# Altium integrated library Freescale Semiconductor ColdFire MCU.IntLib: 117 symbols (part 5 of 7)
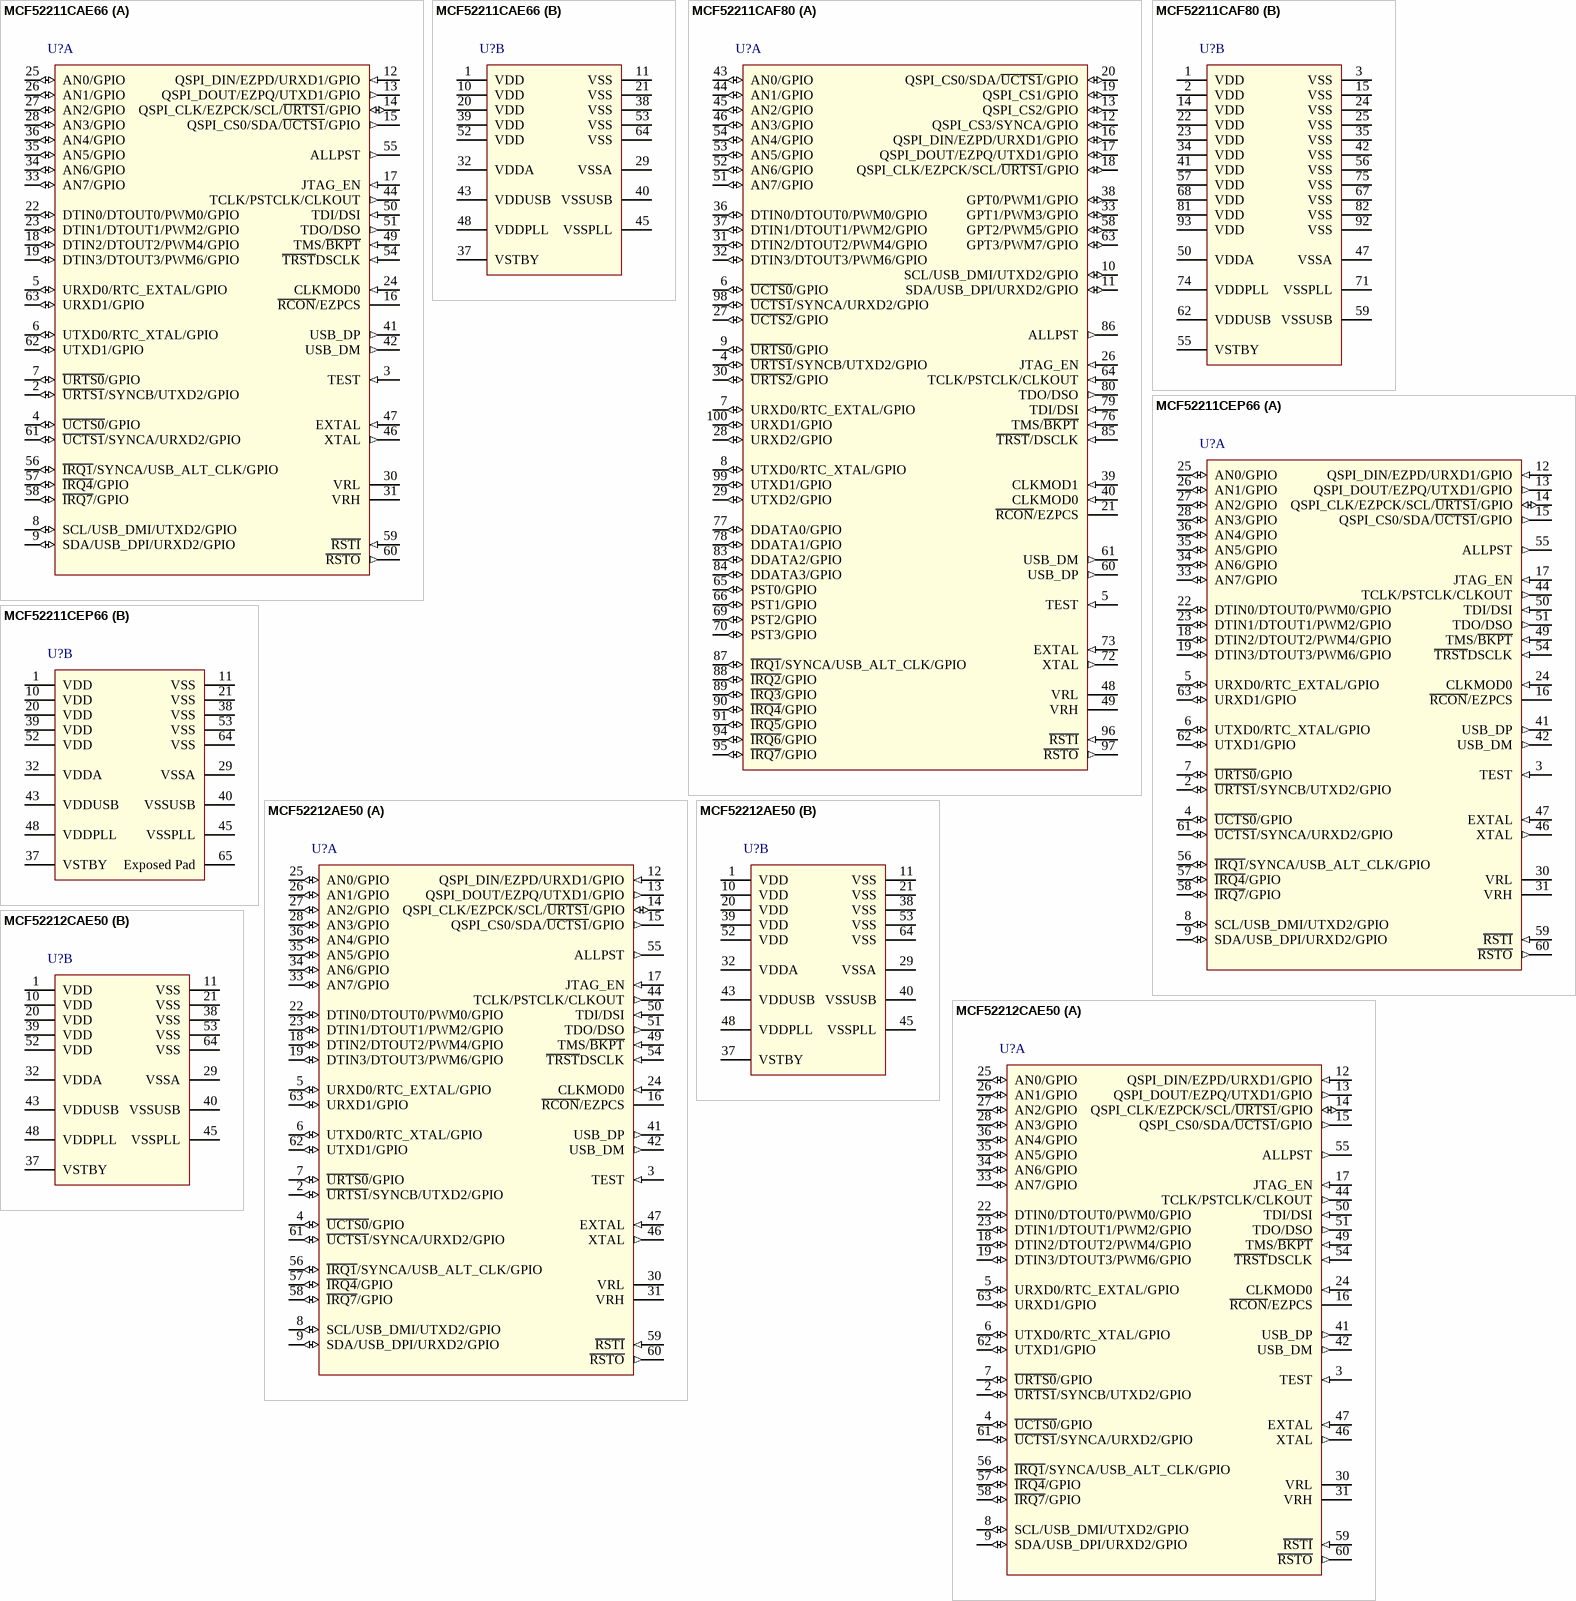
[diagram p34: symbols MCF52211CAE66 to MCF52212CAE50]

## MCF52211CAF80
designator U?
MCF52211 ColdFire V2 Microcontroller, 3 UARTs, 32-Bit, 128KB Flash, 16KB SRAM, 80MHz, -40°C to 85°C, 100-Pin LQFP; DatasheetVersion: rev2, Mar-2011; PackageVersion: rev3.1, Nov-2000; PackageReference: 983-02; PackageDescription: 100-Pin Shrink Quad Flat Pack 0.5 mm Pitch; Code_IPC: SQFP50P1600X1600-100; ComponentLink1Description: Manufacturer URL; ComponentLink1URL: http://www.freescale.com/; ComponentLink2Description: Datasheet; ComponentLink2URL: http://cache.freescale.com/files/32bit/doc/data_sheet/MCF52211.pdf?fpsp=1&WT_TYPE=Data%20Sheets&WT_VENDOR=FREESCALE&WT_FILE_FORMAT=pdf&WT_ASSET=Documentation
footprint 983-02_N (Shrink QFP, 100-Leads, Body 14x14mm, Pitch 0.5mm, IPC Medium Density)
footprint 983-02_L (Shrink QFP, 100-Leads, Body 14x14mm, Pitch 0.5mm, IPC High Density)
footprint 983-02_M (Shrink QFP, 100-Leads, Body 14x14mm, Pitch 0.5mm, IPC Low Density)
part A pins: 4 ~{URTS1}/SYNCB/UTXD2/GPIO (io), 5 TEST (in), 6 ~{UCTS0}/GPIO (io), 7 URXD0/RTC_EXTAL/GPIO (io), 8 UTXD0/RTC_XTAL/GPIO (io), 9 ~{URTS0}/GPIO (io), 10 SCL/USB_DMI/UTXD2/GPIO (io), 11 SDA/USB_DPI/URXD2/GPIO (io), 12 QSPI_CS3/SYNCA/GPIO (io), 13 QSPI_CS2/GPIO (io), 16 QSPI_DIN/EZPD/URXD1/GPIO (io), 17 QSPI_DOUT/EZPQ/UTXD1/GPIO (io), 18 QSPI_CLK/EZPCK/SCL/~{URTS1}/GPIO (io), 19 QSPI_CS1/GPIO (io), 20 QSPI_CS0/SDA/~{UCTS1}/GPIO (io), 21 ~{RCON}/EZPCS, 26 JTAG_EN (in), 27 ~{UCTS2}/GPIO (io), 28 URXD2/GPIO (io), 29 UTXD2/GPIO (io), 30 ~{URTS2}/GPIO (io), 31 DTIN2/DTOUT2/PWM4/GPIO (io), 32 DTIN3/DTOUT3/PWM6/GPIO (io), 33 GPT1/PWM3/GPIO (io), 36 DTIN0/DTOUT0/PWM0/GPIO (io), 37 DTIN1/DTOUT1/PWM2/GPIO (io), 38 GPT0/PWM1/GPIO (io), 39 CLKMOD1 (in), 40 CLKMOD0 (in), 43 AN0/GPIO (io), 44 AN1/GPIO (io), 45 AN2/GPIO (io), 46 AN3/GPIO (io), 48 VRL, 49 VRH, 51 AN7/GPIO (io), 52 AN6/GPIO (io), 53 AN5/GPIO (io), 54 AN4/GPIO (io), 58 GPT2/PWM5/GPIO (io), 60 USB_DP (out), 61 USB_DM (out), 63 GPT3/PWM7/GPIO (io), 64 TCLK/PSTCLK/CLKOUT (in), 65 PST0/GPIO (io), 66 PST1/GPIO (io), 69 PST2/GPIO (io), 70 PST3/GPIO (io), 72 XTAL (out), 73 EXTAL (in), 76 TMS/~{BKPT} (in), 77 DDATA0/GPIO (io), 78 DDATA1/GPIO (io), 79 TDI/DSI (in), 80 TDO/DSO (out), 83 DDATA2/GPIO (io), 84 DDATA3/GPIO (io), 85 ~{TRST}/DSCLK (in), 86 ALLPST (out), 87 ~{IRQ1}/SYNCA/USB_ALT_CLK/GPIO (io), 88 ~{IRQ2}/GPIO (io), 89 ~{IRQ3}/GPIO (io), 90 ~{IRQ4}/GPIO (io), 91 ~{IRQ5}/GPIO (io), 94 ~{IRQ6}/GPIO (io), 95 ~{IRQ7}/GPIO (io), 96 ~{RSTI} (in), 97 ~{RSTO} (out), 98 ~{UCTS1}/SYNCA/URXD2/GPIO (io), 99 UTXD1/GPIO (io), 100 URXD1/GPIO (io)
part B pins: 1 VDD (power), 2 VDD (power), 3 VSS (power), 14 VDD (power), 15 VSS (power), 22 VDD (power), 23 VDD (power), 24 VSS (power), 25 VSS (power), 34 VDD (power), 35 VSS (power), 41 VDD (power), 42 VSS (power), 47 VSSA (power), 50 VDDA (power), 55 VSTBY (power), 56 VSS (power), 57 VDD (power), 59 VSSUSB (power), 62 VDDUSB (power), 67 VSS (power), 68 VDD (power), 71 VSSPLL (power), 74 VDDPLL (power), 75 VSS (power), 81 VDD (power), 82 VSS (power), 92 VSS (power), 93 VDD (power)

## MCF52211CEP66
designator U?
MCF52211 ColdFire V2 Microcontroller, 2 UARTs, 32-Bit, 128KB Flash, 16KB SRAM, 66MHz, -40°C to 85°C, 64-Pin QFN; DatasheetVersion: rev2, Mar-2011; PackageVersion: revO; PackageReference: 1740-01; PackageDescription: 64-Pin Quad Flat No-Lead, 9 x 9 mm Body, 0.5 mm Pitch; Code_JEDEC: MO-220VMMD-3; ComponentLink1Description: Manufacturer URL; ComponentLink1URL: http://www.freescale.com/; ComponentLink2Description: Datasheet; ComponentLink2URL: http://cache.freescale.com/files/32bit/doc/data_sheet/MCF52211.pdf?fpsp=1&WT_TYPE=Data%20Sheets&WT_VENDOR=FREESCALE&WT_FILE_FORMAT=pdf&WT_ASSET=Documentation
footprint 1740-01_N (QFN, 64-Leads, Body 9x9mm, Pitch 0.5mm, Thermal Pad 6.1x6.1mm, IPC Medium Density)
footprint 1740-01_L (QFN, 64-Leads, Body 9x9mm, Pitch 0.5mm, Thermal Pad 6.1x6.1mm, IPC High Density)
footprint 1740-01_M (QFN, 64-Leads, Body 9x9mm, Pitch 0.5mm, Thermal Pad 6.1x6.1mm, IPC Low Density)
part A pins: 2 ~{URTS1}/SYNCB/UTXD2/GPIO (io), 3 TEST (in), 4 ~{UCTS0}/GPIO (io), 5 URXD0/RTC_EXTAL/GPIO (io), 6 UTXD0/RTC_XTAL/GPIO (io), 7 ~{URTS0}/GPIO (io), 8 SCL/USB_DMI/UTXD2/GPIO (io), 9 SDA/USB_DPI/URXD2/GPIO (io), 12 QSPI_DIN/EZPD/URXD1/GPIO (in), 13 QSPI_DOUT/EZPQ/UTXD1/GPIO (out), 14 QSPI_CLK/EZPCK/SCL/~{URTS1}/GPIO (io), 15 QSPI_CS0/SDA/~{UCTS1}/GPIO (out), 16 ~{RCON}/EZPCS, 17 JTAG_EN (in), 18 DTIN2/DTOUT2/PWM4/GPIO (io), 19 DTIN3/DTOUT3/PWM6/GPIO (io), 22 DTIN0/DTOUT0/PWM0/GPIO (io), 23 DTIN1/DTOUT1/PWM2/GPIO (io), 24 CLKMOD0 (in), 25 AN0/GPIO (io), 26 AN1/GPIO (io), 27 AN2/GPIO (io), 28 AN3/GPIO (io), 30 VRL (power), 31 VRH (power), 33 AN7/GPIO (io), 34 AN6/GPIO (io), 35 AN5/GPIO (io), 36 AN4/GPIO (io), 41 USB_DP (out), 42 USB_DM (out), 44 TCLK/PSTCLK/CLKOUT (out), 46 XTAL (out), 47 EXTAL (in), 49 TMS/~{BKPT} (in), 50 TDI/DSI (in), 51 TDO/DSO (out), 54 ~{TRST}DSCLK (in), 55 ALLPST (out), 56 ~{IRQ1}/SYNCA/USB_ALT_CLK/GPIO (io), 57 ~{IRQ4}/GPIO (io), 58 ~{IRQ7}/GPIO (io), 59 ~{RSTI} (in), 60 ~{RSTO} (out), 61 ~{UCTS1}/SYNCA/URXD2/GPIO (io), 62 UTXD1/GPIO (io), 63 URXD1/GPIO (io)
part B pins: 1 VDD (power), 10 VDD (power), 11 VSS (power), 20 VDD (power), 21 VSS (power), 29 VSSA (power), 32 VDDA (power), 37 VSTBY (power), 38 VSS (power), 39 VDD (power), 40 VSSUSB (power), 43 VDDUSB (power), 45 VSSPLL (power), 48 VDDPLL (power), 52 VDD (power), 53 VSS (power), 64 VSS (power), 65 Exposed Pad (power)

## MCF52212AE50
designator U?
MCF52212 ColdFire V2 Microcontroller, 2 UARTs, 32-Bit, 64KB Flash, 8KB SRAM, 50MHz, 0°C to 70°C, 64-Pin LQFP; DatasheetVersion: rev2, Mar-2011; PackageVersion: rev6, Mar-2011; PackageReference: 840F-02; PackageDescription: 64-Pin Thin Quad Flat Pack, 10 x 10 mm Body, 0.5 mm Pitch; ComponentLink1Description: Manufacturer URL; ComponentLink1URL: http://www.freescale.com/; ComponentLink2Description: Datasheet; ComponentLink2URL: http://cache.freescale.com/files/32bit/doc/data_sheet/MCF52211.pdf?fpsp=1&WT_TYPE=Data%20Sheets&WT_VENDOR=FREESCALE&WT_FILE_FORMAT=pdf&WT_ASSET=Documentation
footprint 840F-02_N (Thin QFP, 64-Leads, Body 10x10mm, Pitch 0.5mm, IPC Medium Density)
footprint 840F-02_L (Thin QFP, 64-Leads, Body 10x10mm, Pitch 0.5mm, IPC High Density)
footprint 840F-02_M (Thin QFP, 64-Leads, Body 10x10mm, Pitch 0.5mm, IPC Low Density)
part A pins: 2 ~{URTS1}/SYNCB/UTXD2/GPIO (io), 3 TEST (in), 4 ~{UCTS0}/GPIO (io), 5 URXD0/RTC_EXTAL/GPIO (io), 6 UTXD0/RTC_XTAL/GPIO (io), 7 ~{URTS0}/GPIO (io), 8 SCL/USB_DMI/UTXD2/GPIO (io), 9 SDA/USB_DPI/URXD2/GPIO (io), 12 QSPI_DIN/EZPD/URXD1/GPIO (in), 13 QSPI_DOUT/EZPQ/UTXD1/GPIO (out), 14 QSPI_CLK/EZPCK/SCL/~{URTS1}/GPIO (io), 15 QSPI_CS0/SDA/~{UCTS1}/GPIO (out), 16 ~{RCON}/EZPCS, 17 JTAG_EN (in), 18 DTIN2/DTOUT2/PWM4/GPIO (io), 19 DTIN3/DTOUT3/PWM6/GPIO (io), 22 DTIN0/DTOUT0/PWM0/GPIO (io), 23 DTIN1/DTOUT1/PWM2/GPIO (io), 24 CLKMOD0 (in), 25 AN0/GPIO (io), 26 AN1/GPIO (io), 27 AN2/GPIO (io), 28 AN3/GPIO (io), 30 VRL (power), 31 VRH (power), 33 AN7/GPIO (io), 34 AN6/GPIO (io), 35 AN5/GPIO (io), 36 AN4/GPIO (io), 41 USB_DP (out), 42 USB_DM (out), 44 TCLK/PSTCLK/CLKOUT (out), 46 XTAL (out), 47 EXTAL (in), 49 TMS/~{BKPT} (in), 50 TDI/DSI (in), 51 TDO/DSO (out), 54 ~{TRST}DSCLK (in), 55 ALLPST (out), 56 ~{IRQ1}/SYNCA/USB_ALT_CLK/GPIO (io), 57 ~{IRQ4}/GPIO (io), 58 ~{IRQ7}/GPIO (io), 59 ~{RSTI} (in), 60 ~{RSTO} (out), 61 ~{UCTS1}/SYNCA/URXD2/GPIO (io), 62 UTXD1/GPIO (io), 63 URXD1/GPIO (io)
part B pins: 1 VDD (power), 10 VDD (power), 11 VSS (power), 20 VDD (power), 21 VSS (power), 29 VSSA (power), 32 VDDA (power), 37 VSTBY (power), 38 VSS (power), 39 VDD (power), 40 VSSUSB (power), 43 VDDUSB (power), 45 VSSPLL (power), 48 VDDPLL (power), 52 VDD (power), 53 VSS (power), 64 VSS (power)

## MCF52212CAE50
designator U?
MCF52212 ColdFire V2 Microcontroller, 2 UARTs, 32-Bit, 64KB Flash, 8KB SRAM, 50MHz, -40°C to 85°C, 64-Pin LQFP; DatasheetVersion: rev2, Mar-2011; PackageVersion: rev6, Mar-2011; PackageReference: 840F-02; PackageDescription: 64-Pin Thin Quad Flat Pack, 10 x 10 mm Body, 0.5 mm Pitch; ComponentLink1Description: Manufacturer URL; ComponentLink1URL: http://www.freescale.com/; ComponentLink2Description: Datasheet; ComponentLink2URL: http://cache.freescale.com/files/32bit/doc/data_sheet/MCF52211.pdf?fpsp=1&WT_TYPE=Data%20Sheets&WT_VENDOR=FREESCALE&WT_FILE_FORMAT=pdf&WT_ASSET=Documentation
footprint 840F-02_N (Thin QFP, 64-Leads, Body 10x10mm, Pitch 0.5mm, IPC Medium Density)
footprint 840F-02_L (Thin QFP, 64-Leads, Body 10x10mm, Pitch 0.5mm, IPC High Density)
footprint 840F-02_M (Thin QFP, 64-Leads, Body 10x10mm, Pitch 0.5mm, IPC Low Density)
part A pins: 2 ~{URTS1}/SYNCB/UTXD2/GPIO (io), 3 TEST (in), 4 ~{UCTS0}/GPIO (io), 5 URXD0/RTC_EXTAL/GPIO (io), 6 UTXD0/RTC_XTAL/GPIO (io), 7 ~{URTS0}/GPIO (io), 8 SCL/USB_DMI/UTXD2/GPIO (io), 9 SDA/USB_DPI/URXD2/GPIO (io), 12 QSPI_DIN/EZPD/URXD1/GPIO (in), 13 QSPI_DOUT/EZPQ/UTXD1/GPIO (out), 14 QSPI_CLK/EZPCK/SCL/~{URTS1}/GPIO (io), 15 QSPI_CS0/SDA/~{UCTS1}/GPIO (out), 16 ~{RCON}/EZPCS, 17 JTAG_EN (in), 18 DTIN2/DTOUT2/PWM4/GPIO (io), 19 DTIN3/DTOUT3/PWM6/GPIO (io), 22 DTIN0/DTOUT0/PWM0/GPIO (io), 23 DTIN1/DTOUT1/PWM2/GPIO (io), 24 CLKMOD0 (in), 25 AN0/GPIO (io), 26 AN1/GPIO (io), 27 AN2/GPIO (io), 28 AN3/GPIO (io), 30 VRL (power), 31 VRH (power), 33 AN7/GPIO (io), 34 AN6/GPIO (io), 35 AN5/GPIO (io), 36 AN4/GPIO (io), 41 USB_DP (out), 42 USB_DM (out), 44 TCLK/PSTCLK/CLKOUT (out), 46 XTAL (out), 47 EXTAL (in), 49 TMS/~{BKPT} (in), 50 TDI/DSI (in), 51 TDO/DSO (out), 54 ~{TRST}DSCLK (in), 55 ALLPST (out), 56 ~{IRQ1}/SYNCA/USB_ALT_CLK/GPIO (io), 57 ~{IRQ4}/GPIO (io), 58 ~{IRQ7}/GPIO (io), 59 ~{RSTI} (in), 60 ~{RSTO} (out), 61 ~{UCTS1}/SYNCA/URXD2/GPIO (io), 62 UTXD1/GPIO (io), 63 URXD1/GPIO (io)
part B pins: 1 VDD (power), 10 VDD (power), 11 VSS (power), 20 VDD (power), 21 VSS (power), 29 VSSA (power), 32 VDDA (power), 37 VSTBY (power), 38 VSS (power), 39 VDD (power), 40 VSSUSB (power), 43 VDDUSB (power), 45 VSSPLL (power), 48 VDDPLL (power), 52 VDD (power), 53 VSS (power), 64 VSS (power)

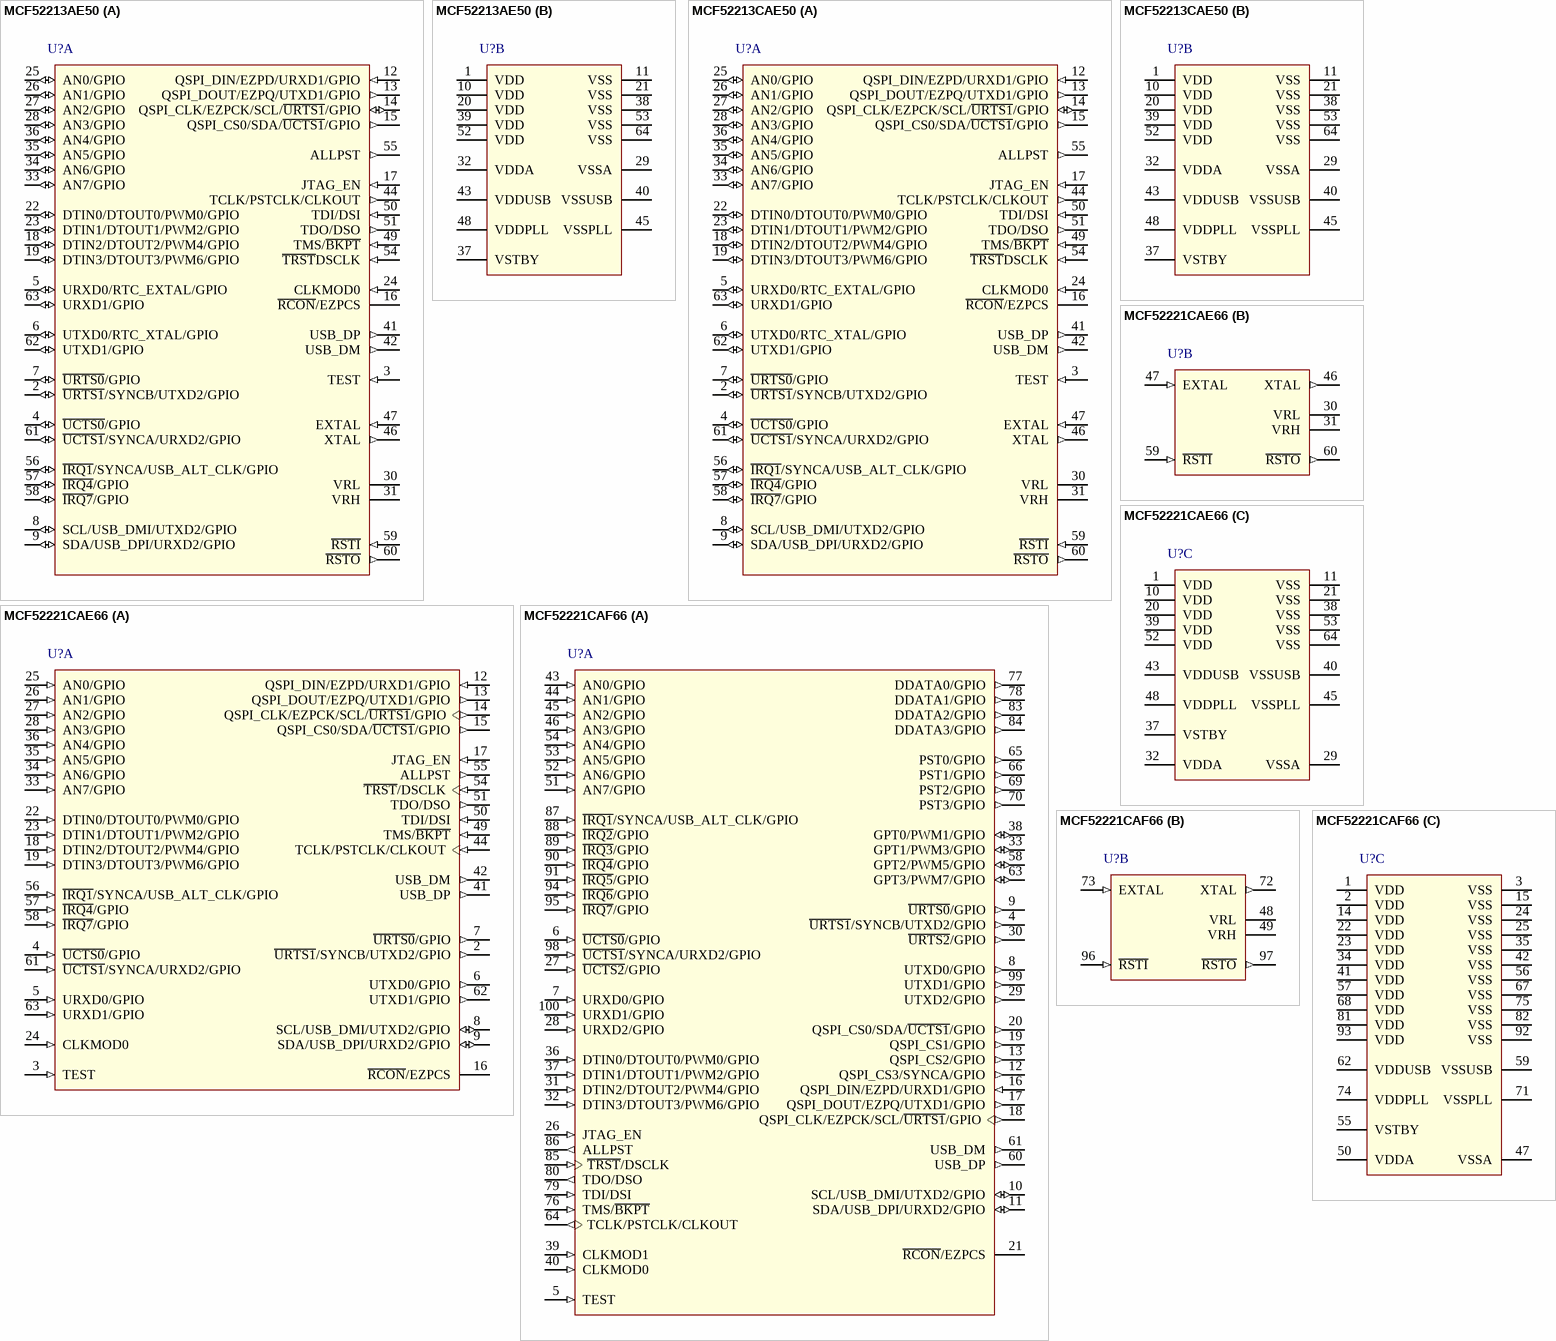
[diagram p19: symbols MCF52213AE50 to MCF52221CAF66]

## MCF52213AE50
designator U?
MCF52213 ColdFire V2 Microcontroller, 2 UARTs, 32-Bit, 128KB Flash, 8KB SRAM, 50MHz, 0°C to 70°C, 64-Pin LQFP; DatasheetVersion: rev2, Mar-2011; PackageVersion: rev6, Mar-2011; PackageReference: 840F-02; PackageDescription: 64-Pin Thin Quad Flat Pack, 10 x 10 mm Body, 0.5 mm Pitch; ComponentLink1Description: Manufacturer URL; ComponentLink1URL: http://www.freescale.com/; ComponentLink2Description: Datasheet; ComponentLink2URL: http://cache.freescale.com/files/32bit/doc/data_sheet/MCF52211.pdf?fpsp=1&WT_TYPE=Data%20Sheets&WT_VENDOR=FREESCALE&WT_FILE_FORMAT=pdf&WT_ASSET=Documentation
footprint 840F-02_N (Thin QFP, 64-Leads, Body 10x10mm, Pitch 0.5mm, IPC Medium Density)
footprint 840F-02_L (Thin QFP, 64-Leads, Body 10x10mm, Pitch 0.5mm, IPC High Density)
footprint 840F-02_M (Thin QFP, 64-Leads, Body 10x10mm, Pitch 0.5mm, IPC Low Density)
part A pins: 2 ~{URTS1}/SYNCB/UTXD2/GPIO (io), 3 TEST (in), 4 ~{UCTS0}/GPIO (io), 5 URXD0/RTC_EXTAL/GPIO (io), 6 UTXD0/RTC_XTAL/GPIO (io), 7 ~{URTS0}/GPIO (io), 8 SCL/USB_DMI/UTXD2/GPIO (io), 9 SDA/USB_DPI/URXD2/GPIO (io), 12 QSPI_DIN/EZPD/URXD1/GPIO (in), 13 QSPI_DOUT/EZPQ/UTXD1/GPIO (out), 14 QSPI_CLK/EZPCK/SCL/~{URTS1}/GPIO (io), 15 QSPI_CS0/SDA/~{UCTS1}/GPIO (out), 16 ~{RCON}/EZPCS, 17 JTAG_EN (in), 18 DTIN2/DTOUT2/PWM4/GPIO (io), 19 DTIN3/DTOUT3/PWM6/GPIO (io), 22 DTIN0/DTOUT0/PWM0/GPIO (io), 23 DTIN1/DTOUT1/PWM2/GPIO (io), 24 CLKMOD0 (in), 25 AN0/GPIO (io), 26 AN1/GPIO (io), 27 AN2/GPIO (io), 28 AN3/GPIO (io), 30 VRL (power), 31 VRH (power), 33 AN7/GPIO (io), 34 AN6/GPIO (io), 35 AN5/GPIO (io), 36 AN4/GPIO (io), 41 USB_DP (out), 42 USB_DM (out), 44 TCLK/PSTCLK/CLKOUT (out), 46 XTAL (out), 47 EXTAL (in), 49 TMS/~{BKPT} (in), 50 TDI/DSI (in), 51 TDO/DSO (out), 54 ~{TRST}DSCLK (in), 55 ALLPST (out), 56 ~{IRQ1}/SYNCA/USB_ALT_CLK/GPIO (io), 57 ~{IRQ4}/GPIO (io), 58 ~{IRQ7}/GPIO (io), 59 ~{RSTI} (in), 60 ~{RSTO} (out), 61 ~{UCTS1}/SYNCA/URXD2/GPIO (io), 62 UTXD1/GPIO (io), 63 URXD1/GPIO (io)
part B pins: 1 VDD (power), 10 VDD (power), 11 VSS (power), 20 VDD (power), 21 VSS (power), 29 VSSA (power), 32 VDDA (power), 37 VSTBY (power), 38 VSS (power), 39 VDD (power), 40 VSSUSB (power), 43 VDDUSB (power), 45 VSSPLL (power), 48 VDDPLL (power), 52 VDD (power), 53 VSS (power), 64 VSS (power)

## MCF52213CAE50
designator U?
MCF52213 ColdFire V2 Microcontroller, 2 UARTs, 32-Bit, 128KB Flash, 8KB SRAM, 50MHz, -40°C to 85°C, 64-Pin LQFP; DatasheetVersion: rev2, Mar-2011; PackageVersion: rev6, Mar-2011; PackageReference: 840F-02; PackageDescription: 64-Pin Thin Quad Flat Pack, 10 x 10 mm Body, 0.5 mm Pitch; ComponentLink1Description: Manufacturer URL; ComponentLink1URL: http://www.freescale.com/; ComponentLink2Description: Datasheet; ComponentLink2URL: http://cache.freescale.com/files/32bit/doc/data_sheet/MCF52211.pdf?fpsp=1&WT_TYPE=Data%20Sheets&WT_VENDOR=FREESCALE&WT_FILE_FORMAT=pdf&WT_ASSET=Documentation
footprint 840F-02_N (Thin QFP, 64-Leads, Body 10x10mm, Pitch 0.5mm, IPC Medium Density)
footprint 840F-02_L (Thin QFP, 64-Leads, Body 10x10mm, Pitch 0.5mm, IPC High Density)
footprint 840F-02_M (Thin QFP, 64-Leads, Body 10x10mm, Pitch 0.5mm, IPC Low Density)
part A pins: 2 ~{URTS1}/SYNCB/UTXD2/GPIO (io), 3 TEST (in), 4 ~{UCTS0}/GPIO (io), 5 URXD0/RTC_EXTAL/GPIO (io), 6 UTXD0/RTC_XTAL/GPIO (io), 7 ~{URTS0}/GPIO (io), 8 SCL/USB_DMI/UTXD2/GPIO (io), 9 SDA/USB_DPI/URXD2/GPIO (io), 12 QSPI_DIN/EZPD/URXD1/GPIO (in), 13 QSPI_DOUT/EZPQ/UTXD1/GPIO (out), 14 QSPI_CLK/EZPCK/SCL/~{URTS1}/GPIO (io), 15 QSPI_CS0/SDA/~{UCTS1}/GPIO (out), 16 ~{RCON}/EZPCS, 17 JTAG_EN (in), 18 DTIN2/DTOUT2/PWM4/GPIO (io), 19 DTIN3/DTOUT3/PWM6/GPIO (io), 22 DTIN0/DTOUT0/PWM0/GPIO (io), 23 DTIN1/DTOUT1/PWM2/GPIO (io), 24 CLKMOD0 (in), 25 AN0/GPIO (io), 26 AN1/GPIO (io), 27 AN2/GPIO (io), 28 AN3/GPIO (io), 30 VRL (power), 31 VRH (power), 33 AN7/GPIO (io), 34 AN6/GPIO (io), 35 AN5/GPIO (io), 36 AN4/GPIO (io), 41 USB_DP (out), 42 USB_DM (out), 44 TCLK/PSTCLK/CLKOUT (out), 46 XTAL (out), 47 EXTAL (in), 49 TMS/~{BKPT} (in), 50 TDI/DSI (in), 51 TDO/DSO (out), 54 ~{TRST}DSCLK (in), 55 ALLPST (out), 56 ~{IRQ1}/SYNCA/USB_ALT_CLK/GPIO (io), 57 ~{IRQ4}/GPIO (io), 58 ~{IRQ7}/GPIO (io), 59 ~{RSTI} (in), 60 ~{RSTO} (out), 61 ~{UCTS1}/SYNCA/URXD2/GPIO (io), 62 UTXD1/GPIO (io), 63 URXD1/GPIO (io)
part B pins: 1 VDD (power), 10 VDD (power), 11 VSS (power), 20 VDD (power), 21 VSS (power), 29 VSSA (power), 32 VDDA (power), 37 VSTBY (power), 38 VSS (power), 39 VDD (power), 40 VSSUSB (power), 43 VDDUSB (power), 45 VSSPLL (power), 48 VDDPLL (power), 52 VDD (power), 53 VSS (power), 64 VSS (power)

## MCF52221CAE66
designator U?
MCF52221 ColdFire V2 Microcontroller, 32-Bit, 128KB Flash, 16KB SRAM, 66MHz, -40°C to 85°C, 64-Pin LQFP; DatasheetVersion: rev3, Mar-2011; PackageVersion: rev6, Mar-2011; PackageReference: 840F-02; PackageDescription: 64-Pin Thin Quad Flat Pack, 10 x 10 mm Body, 0.5 mm Pitch; ComponentLink1Description: Manufacturer URL; ComponentLink1URL: http://www.freescale.com/; ComponentLink2Description: Datasheet; ComponentLink2URL: http://cache.freescale.com/files/32bit/doc/data_sheet/MCF52223DS.pdf?fpsp=1&WT_TYPE=Data%20Sheets&WT_VENDOR=FREESCALE&WT_FILE_FORMAT=pdf&WT_ASSET=Documentation
footprint 840F-02_N (Thin QFP, 64-Leads, Body 10x10mm, Pitch 0.5mm, IPC Medium Density)
footprint 840F-02_L (Thin QFP, 64-Leads, Body 10x10mm, Pitch 0.5mm, IPC High Density)
footprint 840F-02_M (Thin QFP, 64-Leads, Body 10x10mm, Pitch 0.5mm, IPC Low Density)
part A pins: 2 ~{URTS1}/SYNCB/UTXD2/GPIO (out), 3 TEST (in), 4 ~{UCTS0}/GPIO (in), 5 URXD0/GPIO (in), 6 UTXD0/GPIO (out), 7 ~{URTS0}/GPIO (out), 8 SCL/USB_DMI/UTXD2/GPIO (io), 9 SDA/USB_DPI/URXD2/GPIO (io), 12 QSPI_DIN/EZPD/URXD1/GPIO (in), 13 QSPI_DOUT/EZPQ/UTXD1/GPIO (out), 14 QSPI_CLK/EZPCK/SCL/~{URTS1}/GPIO (out), 15 QSPI_CS0/SDA/~{UCTS1}/GPIO (out), 16 ~{RCON}/EZPCS, 17 JTAG_EN (in), 18 DTIN2/DTOUT2/PWM4/GPIO (in), 19 DTIN3/DTOUT3/PWM6/GPIO (in), 22 DTIN0/DTOUT0/PWM0/GPIO (in), 23 DTIN1/DTOUT1/PWM2/GPIO (in), 24 CLKMOD0 (in), 25 AN0/GPIO (in), 26 AN1/GPIO (in), 27 AN2/GPIO (in), 28 AN3/GPIO (in), 33 AN7/GPIO (in), 34 AN6/GPIO (in), 35 AN5/GPIO (in), 36 AN4/GPIO (in), 41 USB_DP (out), 42 USB_DM (out), 44 TCLK/PSTCLK/CLKOUT (in), 49 TMS/~{BKPT} (in), 50 TDI/DSI (in), 51 TDO/DSO (out), 54 ~{TRST}/DSCLK (in), 55 ALLPST (out), 56 ~{IRQ1}/SYNCA/USB_ALT_CLK/GPIO (in), 57 ~{IRQ4}/GPIO (in), 58 ~{IRQ7}/GPIO (in), 61 ~{UCTS1}/SYNCA/URXD2/GPIO (in), 62 UTXD1/GPIO (out), 63 URXD1/GPIO (in)
part B pins: 30 VRL (power), 31 VRH (power), 46 XTAL (out), 47 EXTAL (in), 59 ~{RSTI} (in), 60 ~{RSTO} (out)
part C pins: 1 VDD (power), 10 VDD (power), 11 VSS (power), 20 VDD (power), 21 VSS (power), 29 VSSA (power), 32 VDDA (power), 37 VSTBY (power), 38 VSS (power), 39 VDD (power), 40 VSSUSB (power), 43 VDDUSB (power), 45 VSSPLL (power), 48 VDDPLL (power), 52 VDD (power), 53 VSS (power), 64 VSS (power)

## MCF52221CAF66
designator U?
MCF52221 ColdFire V2 Microcontroller, 32-Bit, 128KB Flash, 16KB SRAM, 66MHz, -40°C to 85°C, 100-Pin LQFP; DatasheetVersion: rev3, Mar-2011; PackageVersion: rev3.1, Nov-2000; PackageReference: 983-02; PackageDescription: 100-Pin Shrink Quad Flat Pack 0.5 mm Pitch; Code_IPC: SQFP50P1600X1600-100; ComponentLink1Description: Manufacturer URL; ComponentLink1URL: http://www.freescale.com/; ComponentLink2Description: Datasheet; ComponentLink2URL: http://cache.freescale.com/files/32bit/doc/data_sheet/MCF52223DS.pdf?fpsp=1&WT_TYPE=Data%20Sheets&WT_VENDOR=FREESCALE&WT_FILE_FORMAT=pdf&WT_ASSET=Documentation
footprint 983-02_N (Shrink QFP, 100-Leads, Body 14x14mm, Pitch 0.5mm, IPC Medium Density)
footprint 983-02_L (Shrink QFP, 100-Leads, Body 14x14mm, Pitch 0.5mm, IPC High Density)
footprint 983-02_M (Shrink QFP, 100-Leads, Body 14x14mm, Pitch 0.5mm, IPC Low Density)
part A pins: 4 ~{URTS1}/SYNCB/UTXD2/GPIO (out), 5 TEST (in), 6 ~{UCTS0}/GPIO (in), 7 URXD0/GPIO (in), 8 UTXD0/GPIO (out), 9 ~{URTS0}/GPIO (out), 10 SCL/USB_DMI/UTXD2/GPIO (io), 11 SDA/USB_DPI/URXD2/GPIO (io), 12 QSPI_CS3/SYNCA/GPIO (out), 13 QSPI_CS2/GPIO (out), 16 QSPI_DIN/EZPD/URXD1/GPIO (in), 17 QSPI_DOUT/EZPQ/UTXD1/GPIO (out), 18 QSPI_CLK/EZPCK/SCL/~{URTS1}/GPIO (out), 19 QSPI_CS1/GPIO (out), 20 QSPI_CS0/SDA/~{UCTS1}/GPIO (out), 21 ~{RCON}/EZPCS, 26 JTAG_EN (in), 27 ~{UCTS2}/GPIO (in), 28 URXD2/GPIO (in), 29 UTXD2/GPIO (out), 30 ~{URTS2}/GPIO (out), 31 DTIN2/DTOUT2/PWM4/GPIO (in), 32 DTIN3/DTOUT3/PWM6/GPIO (in), 33 GPT1/PWM3/GPIO (io), 36 DTIN0/DTOUT0/PWM0/GPIO (in), 37 DTIN1/DTOUT1/PWM2/GPIO (in), 38 GPT0/PWM1/GPIO (io), 39 CLKMOD1 (in), 40 CLKMOD0 (in), 43 AN0/GPIO (in), 44 AN1/GPIO (in), 45 AN2/GPIO (in), 46 AN3/GPIO (in), 51 AN7/GPIO (in), 52 AN6/GPIO (in), 53 AN5/GPIO (in), 54 AN4/GPIO (in), 58 GPT2/PWM5/GPIO (io), 60 USB_DP (out), 61 USB_DM (out), 63 GPT3/PWM7/GPIO (io), 64 TCLK/PSTCLK/CLKOUT (out), 65 PST0/GPIO (out), 66 PST1/GPIO (out), 69 PST2/GPIO (out), 70 PST3/GPIO (out), 76 TMS/~{BKPT} (in), 77 DDATA0/GPIO (out), 78 DDATA1/GPIO (out), 79 TDI/DSI (in), 80 TDO/DSO (out), 83 DDATA2/GPIO (out), 84 DDATA3/GPIO (out), 85 ~{TRST}/DSCLK (in), 86 ALLPST (out), 87 ~{IRQ1}/SYNCA/USB_ALT_CLK/GPIO (in), 88 ~{IRQ2}/GPIO (in), 89 ~{IRQ3}/GPIO (in), 90 ~{IRQ4}/GPIO (in), 91 ~{IRQ5}/GPIO (in), 94 ~{IRQ6}/GPIO (in), 95 ~{IRQ7}/GPIO (in), 98 ~{UCTS1}/SYNCA/URXD2/GPIO (in), 99 UTXD1/GPIO (out), 100 URXD1/GPIO (in)
part B pins: 48 VRL (power), 49 VRH (power), 72 XTAL (out), 73 EXTAL (in), 96 ~{RSTI} (in), 97 ~{RSTO} (out)
part C pins: 1 VDD (power), 2 VDD (power), 3 VSS (power), 14 VDD (power), 15 VSS (power), 22 VDD (power), 23 VDD (power), 24 VSS (power), 25 VSS (power), 34 VDD (power), 35 VSS (power), 41 VDD (power), 42 VSS (power), 47 VSSA (power), 50 VDDA (power), 55 VSTBY (power), 56 VSS (power), 57 VDD (power), 59 VSSUSB (power), 62 VDDUSB (power), 67 VSS (power), 68 VDD (power), 71 VSSPLL (power), 74 VDDPLL (power), 75 VSS (power), 81 VDD (power), 82 VSS (power), 92 VSS (power), 93 VDD (power)

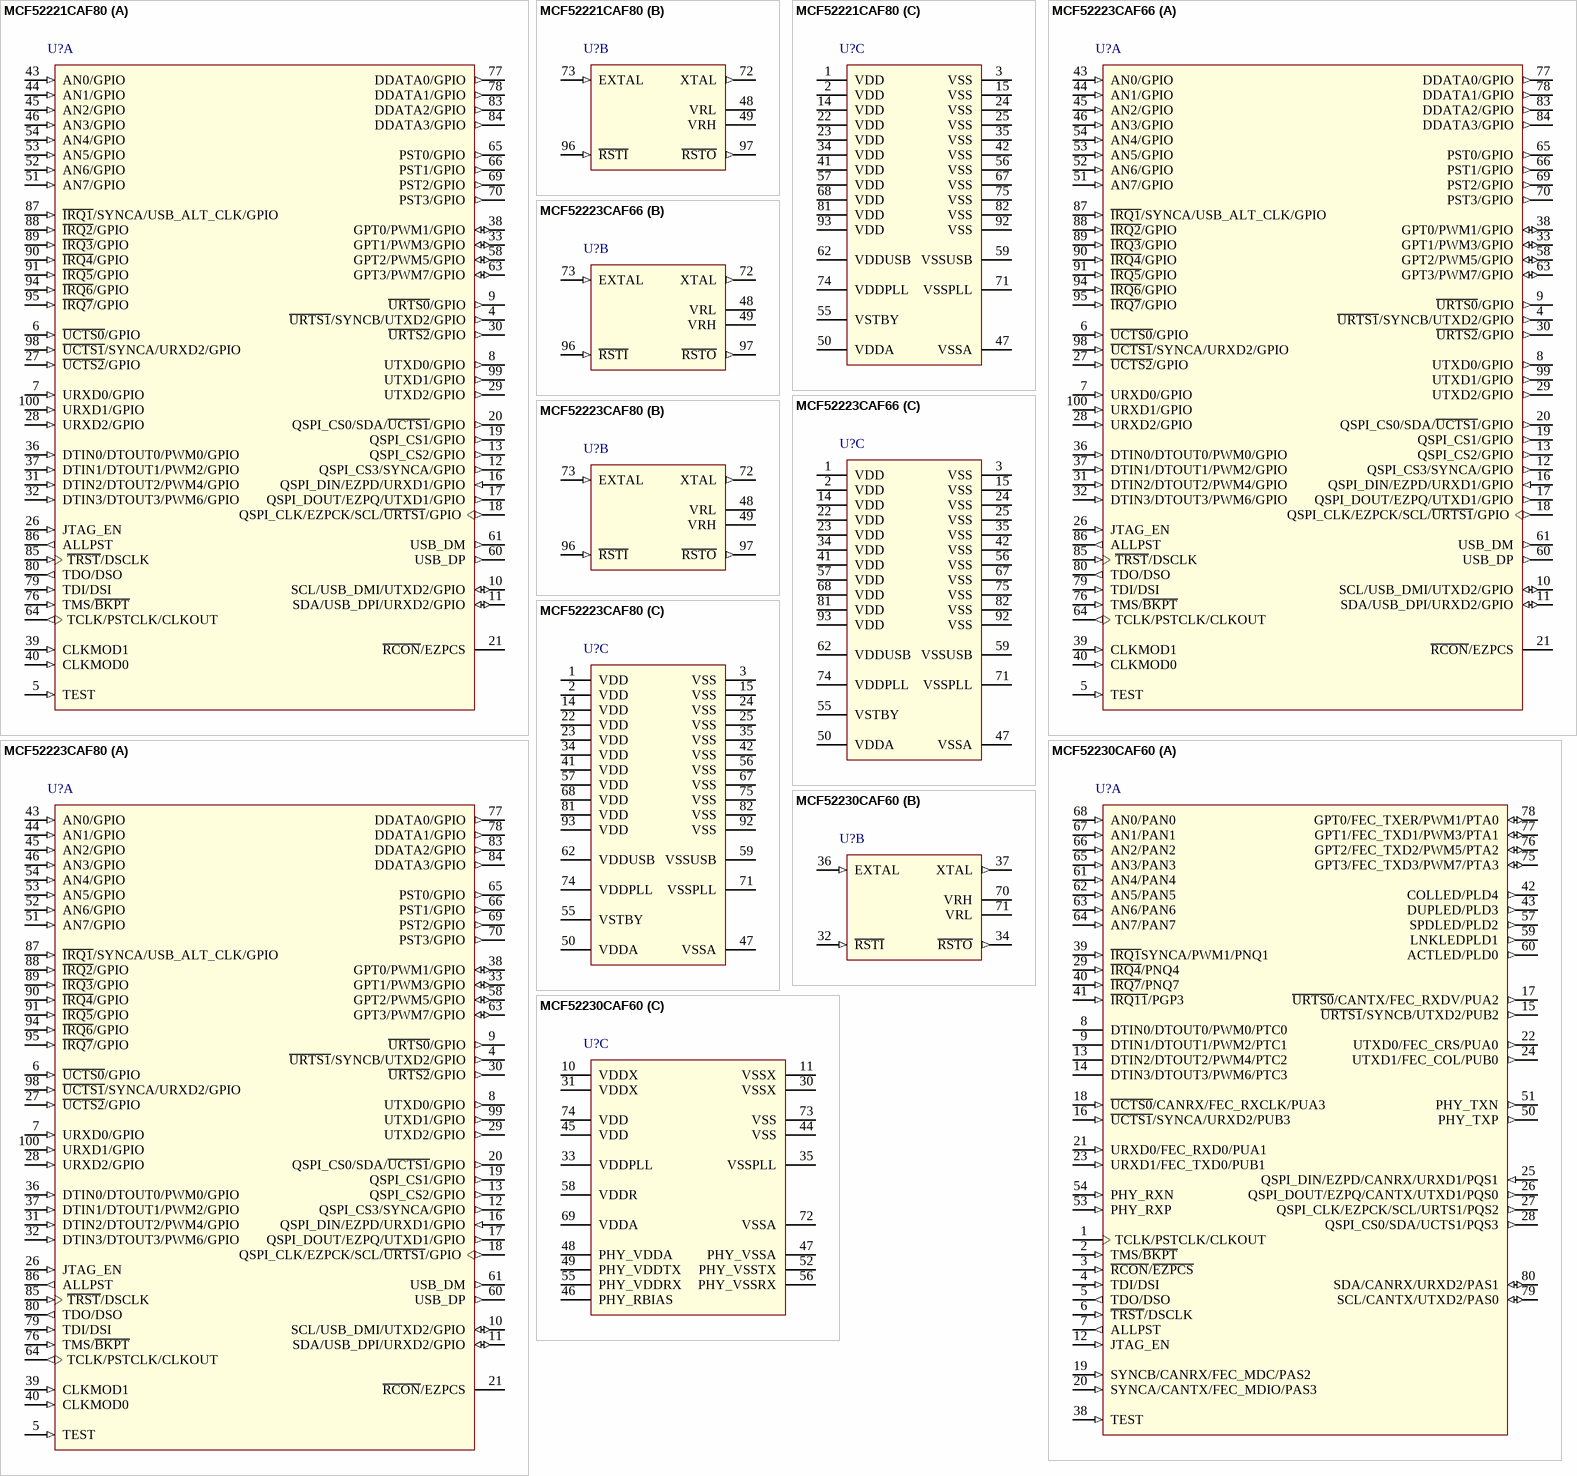
[diagram p20: symbols MCF52221CAF80 to MCF52230CAF60]

## MCF52221CAF80
designator U?
MCF52221 ColdFire V2 Microcontroller, 32-Bit, 128KB Flash, 16KB SRAM, 80MHz, -40°C to 85°C, 100-Pin LQFP; DatasheetVersion: rev3, Mar-2011; PackageVersion: rev3.1, Nov-2000; PackageReference: 983-02; PackageDescription: 100-Pin Shrink Quad Flat Pack 0.5 mm Pitch; Code_IPC: SQFP50P1600X1600-100; ComponentLink1Description: Manufacturer URL; ComponentLink1URL: http://www.freescale.com/; ComponentLink2Description: Datasheet; ComponentLink2URL: http://cache.freescale.com/files/32bit/doc/data_sheet/MCF52223DS.pdf?fpsp=1&WT_TYPE=Data%20Sheets&WT_VENDOR=FREESCALE&WT_FILE_FORMAT=pdf&WT_ASSET=Documentation
footprint 983-02_N (Shrink QFP, 100-Leads, Body 14x14mm, Pitch 0.5mm, IPC Medium Density)
footprint 983-02_L (Shrink QFP, 100-Leads, Body 14x14mm, Pitch 0.5mm, IPC High Density)
footprint 983-02_M (Shrink QFP, 100-Leads, Body 14x14mm, Pitch 0.5mm, IPC Low Density)
part A pins: 4 ~{URTS1}/SYNCB/UTXD2/GPIO (out), 5 TEST (in), 6 ~{UCTS0}/GPIO (in), 7 URXD0/GPIO (in), 8 UTXD0/GPIO (out), 9 ~{URTS0}/GPIO (out), 10 SCL/USB_DMI/UTXD2/GPIO (io), 11 SDA/USB_DPI/URXD2/GPIO (io), 12 QSPI_CS3/SYNCA/GPIO (out), 13 QSPI_CS2/GPIO (out), 16 QSPI_DIN/EZPD/URXD1/GPIO (in), 17 QSPI_DOUT/EZPQ/UTXD1/GPIO (out), 18 QSPI_CLK/EZPCK/SCL/~{URTS1}/GPIO (out), 19 QSPI_CS1/GPIO (out), 20 QSPI_CS0/SDA/~{UCTS1}/GPIO (out), 21 ~{RCON}/EZPCS, 26 JTAG_EN (in), 27 ~{UCTS2}/GPIO (in), 28 URXD2/GPIO (in), 29 UTXD2/GPIO (out), 30 ~{URTS2}/GPIO (out), 31 DTIN2/DTOUT2/PWM4/GPIO (in), 32 DTIN3/DTOUT3/PWM6/GPIO (in), 33 GPT1/PWM3/GPIO (io), 36 DTIN0/DTOUT0/PWM0/GPIO (in), 37 DTIN1/DTOUT1/PWM2/GPIO (in), 38 GPT0/PWM1/GPIO (io), 39 CLKMOD1 (in), 40 CLKMOD0 (in), 43 AN0/GPIO (in), 44 AN1/GPIO (in), 45 AN2/GPIO (in), 46 AN3/GPIO (in), 51 AN7/GPIO (in), 52 AN6/GPIO (in), 53 AN5/GPIO (in), 54 AN4/GPIO (in), 58 GPT2/PWM5/GPIO (io), 60 USB_DP (out), 61 USB_DM (out), 63 GPT3/PWM7/GPIO (io), 64 TCLK/PSTCLK/CLKOUT (out), 65 PST0/GPIO (out), 66 PST1/GPIO (out), 69 PST2/GPIO (out), 70 PST3/GPIO (out), 76 TMS/~{BKPT} (in), 77 DDATA0/GPIO (out), 78 DDATA1/GPIO (out), 79 TDI/DSI (in), 80 TDO/DSO (out), 83 DDATA2/GPIO (out), 84 DDATA3/GPIO (out), 85 ~{TRST}/DSCLK (in), 86 ALLPST (out), 87 ~{IRQ1}/SYNCA/USB_ALT_CLK/GPIO (in), 88 ~{IRQ2}/GPIO (in), 89 ~{IRQ3}/GPIO (in), 90 ~{IRQ4}/GPIO (in), 91 ~{IRQ5}/GPIO (in), 94 ~{IRQ6}/GPIO (in), 95 ~{IRQ7}/GPIO (in), 98 ~{UCTS1}/SYNCA/URXD2/GPIO (in), 99 UTXD1/GPIO (out), 100 URXD1/GPIO (in)
part B pins: 48 VRL (power), 49 VRH (power), 72 XTAL (out), 73 EXTAL (in), 96 ~{RSTI} (in), 97 ~{RSTO} (out)
part C pins: 1 VDD (power), 2 VDD (power), 3 VSS (power), 14 VDD (power), 15 VSS (power), 22 VDD (power), 23 VDD (power), 24 VSS (power), 25 VSS (power), 34 VDD (power), 35 VSS (power), 41 VDD (power), 42 VSS (power), 47 VSSA (power), 50 VDDA (power), 55 VSTBY (power), 56 VSS (power), 57 VDD (power), 59 VSSUSB (power), 62 VDDUSB (power), 67 VSS (power), 68 VDD (power), 71 VSSPLL (power), 74 VDDPLL (power), 75 VSS (power), 81 VDD (power), 82 VSS (power), 92 VSS (power), 93 VDD (power)

## MCF52223CAF66
designator U?
MCF52223 ColdFire V2 Microcontroller, 32-Bit, 128KB Flash, 16KB SRAM, 66MHz, -40°C to 85°C, 100-Pin LQFP; DatasheetVersion: rev3, Mar-2011; PackageVersion: rev3.1, Nov-2000; PackageReference: 983-02; PackageDescription: 100-Pin Shrink Quad Flat Pack 0.5 mm Pitch; Code_IPC: SQFP50P1600X1600-100; ComponentLink1Description: Manufacturer URL; ComponentLink1URL: http://www.freescale.com/; ComponentLink2Description: Datasheet; ComponentLink2URL: http://cache.freescale.com/files/32bit/doc/data_sheet/MCF52223DS.pdf?fpsp=1&WT_TYPE=Data%20Sheets&WT_VENDOR=FREESCALE&WT_FILE_FORMAT=pdf&WT_ASSET=Documentation
footprint 983-02_N (Shrink QFP, 100-Leads, Body 14x14mm, Pitch 0.5mm, IPC Medium Density)
footprint 983-02_L (Shrink QFP, 100-Leads, Body 14x14mm, Pitch 0.5mm, IPC High Density)
footprint 983-02_M (Shrink QFP, 100-Leads, Body 14x14mm, Pitch 0.5mm, IPC Low Density)
part A pins: 4 ~{URTS1}/SYNCB/UTXD2/GPIO (out), 5 TEST (in), 6 ~{UCTS0}/GPIO (in), 7 URXD0/GPIO (in), 8 UTXD0/GPIO (out), 9 ~{URTS0}/GPIO (out), 10 SCL/USB_DMI/UTXD2/GPIO (io), 11 SDA/USB_DPI/URXD2/GPIO (io), 12 QSPI_CS3/SYNCA/GPIO (out), 13 QSPI_CS2/GPIO (out), 16 QSPI_DIN/EZPD/URXD1/GPIO (in), 17 QSPI_DOUT/EZPQ/UTXD1/GPIO (out), 18 QSPI_CLK/EZPCK/SCL/~{URTS1}/GPIO (out), 19 QSPI_CS1/GPIO (out), 20 QSPI_CS0/SDA/~{UCTS1}/GPIO (out), 21 ~{RCON}/EZPCS, 26 JTAG_EN (in), 27 ~{UCTS2}/GPIO (in), 28 URXD2/GPIO (in), 29 UTXD2/GPIO (out), 30 ~{URTS2}/GPIO (out), 31 DTIN2/DTOUT2/PWM4/GPIO (in), 32 DTIN3/DTOUT3/PWM6/GPIO (in), 33 GPT1/PWM3/GPIO (io), 36 DTIN0/DTOUT0/PWM0/GPIO (in), 37 DTIN1/DTOUT1/PWM2/GPIO (in), 38 GPT0/PWM1/GPIO (io), 39 CLKMOD1 (in), 40 CLKMOD0 (in), 43 AN0/GPIO (in), 44 AN1/GPIO (in), 45 AN2/GPIO (in), 46 AN3/GPIO (in), 51 AN7/GPIO (in), 52 AN6/GPIO (in), 53 AN5/GPIO (in), 54 AN4/GPIO (in), 58 GPT2/PWM5/GPIO (io), 60 USB_DP (out), 61 USB_DM (out), 63 GPT3/PWM7/GPIO (io), 64 TCLK/PSTCLK/CLKOUT (out), 65 PST0/GPIO (out), 66 PST1/GPIO (out), 69 PST2/GPIO (out), 70 PST3/GPIO (out), 76 TMS/~{BKPT} (in), 77 DDATA0/GPIO (out), 78 DDATA1/GPIO (out), 79 TDI/DSI (in), 80 TDO/DSO (out), 83 DDATA2/GPIO (out), 84 DDATA3/GPIO (out), 85 ~{TRST}/DSCLK (in), 86 ALLPST (out), 87 ~{IRQ1}/SYNCA/USB_ALT_CLK/GPIO (in), 88 ~{IRQ2}/GPIO (in), 89 ~{IRQ3}/GPIO (in), 90 ~{IRQ4}/GPIO (in), 91 ~{IRQ5}/GPIO (in), 94 ~{IRQ6}/GPIO (in), 95 ~{IRQ7}/GPIO (in), 98 ~{UCTS1}/SYNCA/URXD2/GPIO (in), 99 UTXD1/GPIO (out), 100 URXD1/GPIO (in)
part B pins: 48 VRL (power), 49 VRH (power), 72 XTAL (out), 73 EXTAL (in), 96 ~{RSTI} (in), 97 ~{RSTO} (out)
part C pins: 1 VDD (power), 2 VDD (power), 3 VSS (power), 14 VDD (power), 15 VSS (power), 22 VDD (power), 23 VDD (power), 24 VSS (power), 25 VSS (power), 34 VDD (power), 35 VSS (power), 41 VDD (power), 42 VSS (power), 47 VSSA (power), 50 VDDA (power), 55 VSTBY (power), 56 VSS (power), 57 VDD (power), 59 VSSUSB (power), 62 VDDUSB (power), 67 VSS (power), 68 VDD (power), 71 VSSPLL (power), 74 VDDPLL (power), 75 VSS (power), 81 VDD (power), 82 VSS (power), 92 VSS (power), 93 VDD (power)

## MCF52223CAF80
designator U?
MCF52223 ColdFire V2 Microcontroller, 32-Bit, 128KB Flash, 16KB SRAM, 80MHz, -40°C to 85°C, 100-Pin LQFP; DatasheetVersion: rev3, Mar-2011; PackageVersion: rev3.1, Nov-2000; PackageReference: 983-02; PackageDescription: 100-Pin Shrink Quad Flat Pack 0.5 mm Pitch; Code_IPC: SQFP50P1600X1600-100; ComponentLink1Description: Manufacturer URL; ComponentLink1URL: http://www.freescale.com/; ComponentLink2Description: Datasheet; ComponentLink2URL: http://cache.freescale.com/files/32bit/doc/data_sheet/MCF52223DS.pdf?fpsp=1&WT_TYPE=Data%20Sheets&WT_VENDOR=FREESCALE&WT_FILE_FORMAT=pdf&WT_ASSET=Documentation
footprint 983-02_N (Shrink QFP, 100-Leads, Body 14x14mm, Pitch 0.5mm, IPC Medium Density)
footprint 983-02_L (Shrink QFP, 100-Leads, Body 14x14mm, Pitch 0.5mm, IPC High Density)
footprint 983-02_M (Shrink QFP, 100-Leads, Body 14x14mm, Pitch 0.5mm, IPC Low Density)
part A pins: 4 ~{URTS1}/SYNCB/UTXD2/GPIO (out), 5 TEST (in), 6 ~{UCTS0}/GPIO (in), 7 URXD0/GPIO (in), 8 UTXD0/GPIO (out), 9 ~{URTS0}/GPIO (out), 10 SCL/USB_DMI/UTXD2/GPIO (io), 11 SDA/USB_DPI/URXD2/GPIO (io), 12 QSPI_CS3/SYNCA/GPIO (out), 13 QSPI_CS2/GPIO (out), 16 QSPI_DIN/EZPD/URXD1/GPIO (in), 17 QSPI_DOUT/EZPQ/UTXD1/GPIO (out), 18 QSPI_CLK/EZPCK/SCL/~{URTS1}/GPIO (out), 19 QSPI_CS1/GPIO (out), 20 QSPI_CS0/SDA/~{UCTS1}/GPIO (out), 21 ~{RCON}/EZPCS, 26 JTAG_EN (in), 27 ~{UCTS2}/GPIO (in), 28 URXD2/GPIO (in), 29 UTXD2/GPIO (out), 30 ~{URTS2}/GPIO (out), 31 DTIN2/DTOUT2/PWM4/GPIO (in), 32 DTIN3/DTOUT3/PWM6/GPIO (in), 33 GPT1/PWM3/GPIO (io), 36 DTIN0/DTOUT0/PWM0/GPIO (in), 37 DTIN1/DTOUT1/PWM2/GPIO (in), 38 GPT0/PWM1/GPIO (io), 39 CLKMOD1 (in), 40 CLKMOD0 (in), 43 AN0/GPIO (in), 44 AN1/GPIO (in), 45 AN2/GPIO (in), 46 AN3/GPIO (in), 51 AN7/GPIO (in), 52 AN6/GPIO (in), 53 AN5/GPIO (in), 54 AN4/GPIO (in), 58 GPT2/PWM5/GPIO (io), 60 USB_DP (out), 61 USB_DM (out), 63 GPT3/PWM7/GPIO (io), 64 TCLK/PSTCLK/CLKOUT (out), 65 PST0/GPIO (out), 66 PST1/GPIO (out), 69 PST2/GPIO (out), 70 PST3/GPIO (out), 76 TMS/~{BKPT} (in), 77 DDATA0/GPIO (out), 78 DDATA1/GPIO (out), 79 TDI/DSI (in), 80 TDO/DSO (out), 83 DDATA2/GPIO (out), 84 DDATA3/GPIO (out), 85 ~{TRST}/DSCLK (in), 86 ALLPST (out), 87 ~{IRQ1}/SYNCA/USB_ALT_CLK/GPIO (in), 88 ~{IRQ2}/GPIO (in), 89 ~{IRQ3}/GPIO (in), 90 ~{IRQ4}/GPIO (in), 91 ~{IRQ5}/GPIO (in), 94 ~{IRQ6}/GPIO (in), 95 ~{IRQ7}/GPIO (in), 98 ~{UCTS1}/SYNCA/URXD2/GPIO (in), 99 UTXD1/GPIO (out), 100 URXD1/GPIO (in)
part B pins: 48 VRL (power), 49 VRH (power), 72 XTAL (out), 73 EXTAL (in), 96 ~{RSTI} (in), 97 ~{RSTO} (out)
part C pins: 1 VDD (power), 2 VDD (power), 3 VSS (power), 14 VDD (power), 15 VSS (power), 22 VDD (power), 23 VDD (power), 24 VSS (power), 25 VSS (power), 34 VDD (power), 35 VSS (power), 41 VDD (power), 42 VSS (power), 47 VSSA (power), 50 VDDA (power), 55 VSTBY (power), 56 VSS (power), 57 VDD (power), 59 VSSUSB (power), 62 VDDUSB (power), 67 VSS (power), 68 VDD (power), 71 VSSPLL (power), 74 VDDPLL (power), 75 VSS (power), 81 VDD (power), 82 VSS (power), 92 VSS (power), 93 VDD (power)

## MCF52230CAF60
designator U?
MCF52230 ColdFire V2 Microcontroller, 32-Bit, 128KB Flash, 32KB SRAM, 60MHz, -40°C to 85°C, 80-Pin LQFP; DatasheetVersion: rev10, Mar-2011; PackageVersion: 21/09/1995; PackageReference: 917A-02; PackageDescription: 80-Pin Thin Quad Flat Pack 0.65 mm Pitch; ComponentLink1Description: Manufacturer URL; ComponentLink1URL: http://www.freescale.com/; ComponentLink2Description: Datasheet; ComponentLink2URL: http://cache.freescale.com/files/32bit/doc/data_sheet/MCF52235DS.pdf?fpsp=1&WT_TYPE=Data%20Sheets&WT_VENDOR=FREESCALE&WT_FILE_FORMAT=pdf&WT_ASSET=Documentation
footprint 917A-02_N (Thin QFP, 80-Leads, Body 14 x 14mm, Pitch 0.65mm, IPC Medium Density)
footprint 917A-02_L (Thin QFP, 80-Leads, Body 14 x 14mm, Pitch 0.65mm, IPC High Density)
footprint 917A-02_M (Thin QFP, 80-Leads, Body 14 x 14mm, Pitch 0.65mm, IPC Low Density)
part A pins: 1 TCLK/PSTCLK/CLKOUT, 2 TMS/~{BKPT} (in), 3 ~{RCON}/~{EZPCS} (in), 4 TDI/DSI (in), 5 TDO/DSO (out), 6 ~{TRST}/DSCLK (in), 7 ALLPST (out), 8 DTIN0/DTOUT0/PWM0/PTC0, 9 DTIN1/DTOUT1/PWM2/PTC1, 12 JTAG_EN (in), 13 DTIN2/DTOUT2/PWM4/PTC2, 14 DTIN3/DTOUT3/PWM6/PTC3, 15 ~{URTS1}/SYNCB/UTXD2/PUB2 (out), 16 ~{UCTS1}/SYNCA/URXD2/PUB3 (in), 17 ~{URTS0}/CANTX/FEC_RXDV/PUA2 (out), 18 ~{UCTS0}/CANRX/FEC_RXCLK/PUA3 (in), 19 SYNCB/CANRX/FEC_MDC/PAS2 (in), 20 SYNCA/CANTX/FEC_MDIO/PAS3 (in), 21 URXD0/FEC_RXD0/PUA1 (in), 22 UTXD0/FEC_CRS/PUA0 (out), 23 URXD1/FEC_TXD0/PUB1 (in), 24 UTXD1/FEC_COL/PUB0 (out), 25 QSPI_DIN/EZPD/CANRX/URXD1/PQS1 (in), 26 QSPI_DOUT/EZPQ/CANTX/UTXD1/PQS0 (out), 27 QSPI_CLK/EZPCK/SCL/URTS1/PQS2 (out), 28 QSPI_CS0/SDA/UCTS1/PQS3 (out), 29 ~{IRQ4}/PNQ4 (in), 38 TEST (in), 39 ~{IRQ1}SYNCA/PWM1/PNQ1 (in), 40 ~{IRQ7}/PNQ7 (in), 41 ~{IRQ11}/PGP3 (in), 42 COLLED/PLD4 (out), 43 DUPLED/PLD3 (out), 50 PHY_TXP (out), 51 PHY_TXN (out), 53 PHY_RXP (in), 54 PHY_RXN (in), 57 SPDLED/PLD2 (out), 59 LNKLEDPLD1 (out), 60 ACTLED/PLD0 (out), 61 AN4/PAN4 (in), 62 AN5/PAN5 (in), 63 AN6/PAN6 (in), 64 AN7/PAN7 (in), 65 AN3/PAN3 (in), 66 AN2/PAN2 (in), 67 AN1/PAN1 (in), 68 AN0/PAN0 (in), 75 GPT3/FEC_TXD3/PWM7/PTA3 (io), 76 GPT2/FEC_TXD2/PWM5/PTA2 (io), 77 GPT1/FEC_TXD1/PWM3/PTA1 (io), 78 GPT0/FEC_TXER/PWM1/PTA0 (io), 79 SCL/CANTX/UTXD2/PAS0 (io), 80 SDA/CANRX/URXD2/PAS1 (io)
part B pins: 32 ~{RSTI} (in), 34 ~{RSTO} (out), 36 EXTAL (in), 37 XTAL (out), 70 VRH (power), 71 VRL (power)
part C pins: 10 VDDX (power), 11 VSSX (power), 30 VSSX (power), 31 VDDX (power), 33 VDDPLL (power), 35 VSSPLL (power), 44 VSS (power), 45 VDD (power), 46 PHY_RBIAS (power), 47 PHY_VSSA (power), 48 PHY_VDDA (power), 49 PHY_VDDTX (power), 52 PHY_VSSTX (power), 55 PHY_VDDRX (power), 56 PHY_VSSRX (power), 58 VDDR (power), 69 VDDA (power), 72 VSSA (power), 73 VSS (power), 74 VDD (power)

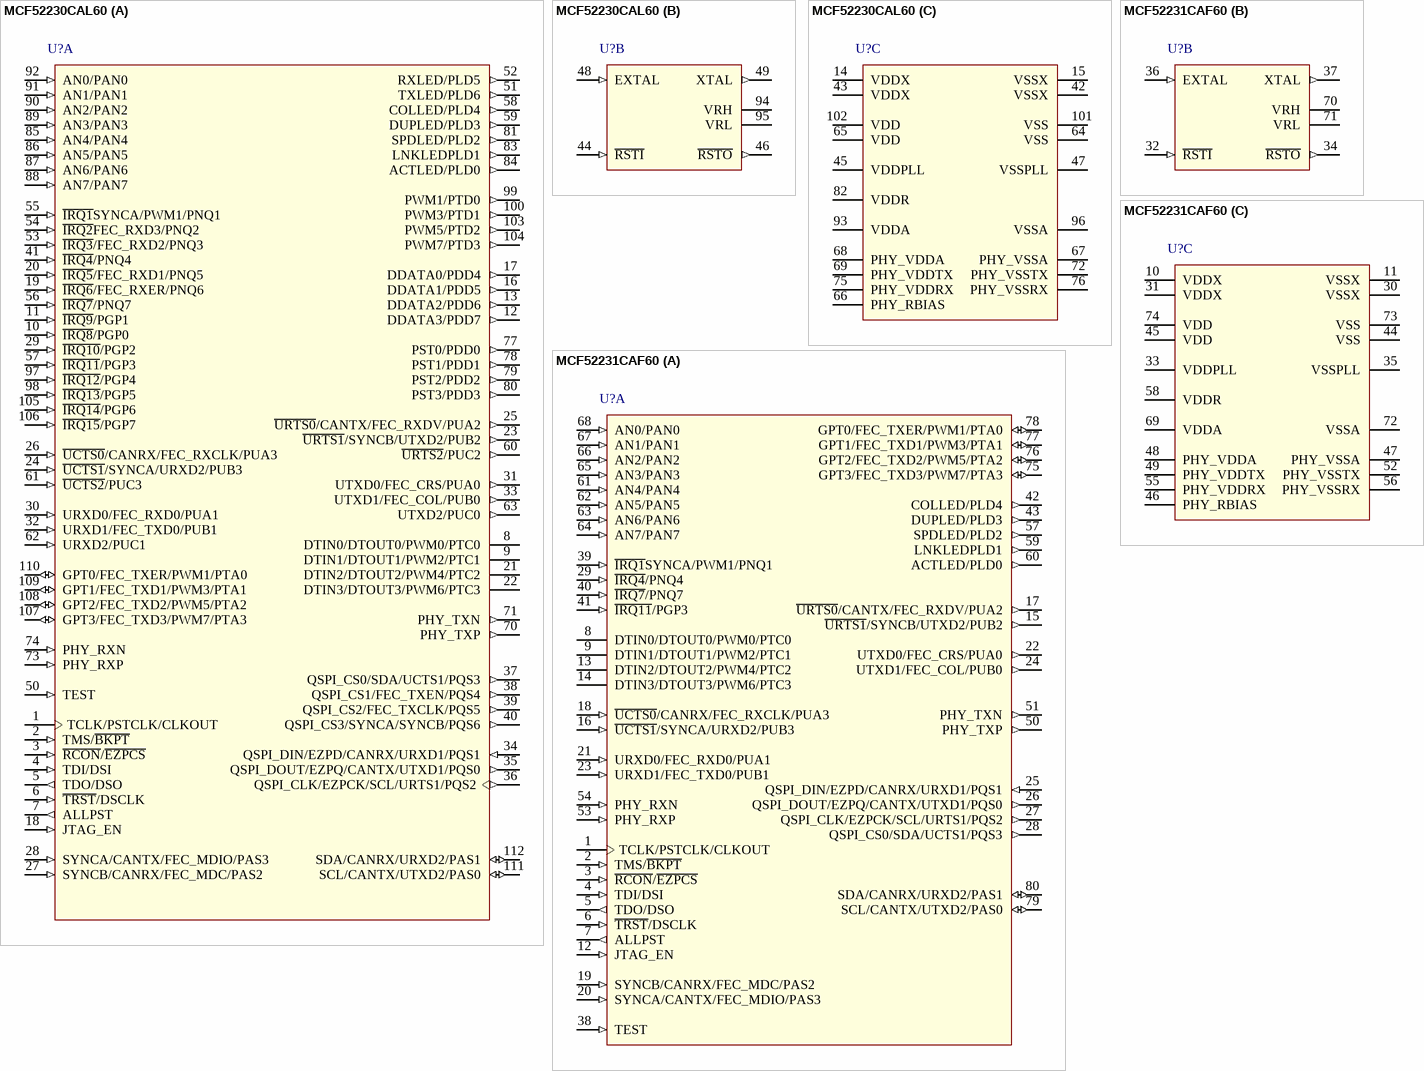
[diagram p21: symbols MCF52230CAL60 to MCF52231CAF60]

## MCF52230CAL60
designator U?
MCF52230 ColdFire V2 Microcontroller, 32-Bit, 128KB Flash, 32KB SRAM, 60MHz, -40°C to 85°C, 112-Pin LQFP; DatasheetVersion: rev10, Mar-2011; PackageVersion: revE, May-2005; PackageReference: 987-02; PackageDescription: 112-Pin Low Profile Quad Flat Pack 0.65 mm Pitch (987-02); Code_JEDEC: MS-026; ComponentLink1Description: Manufacturer URL; ComponentLink1URL: http://www.freescale.com/; ComponentLink2Description: Datasheet; ComponentLink2URL: http://cache.freescale.com/files/32bit/doc/data_sheet/MCF52235DS.pdf?fpsp=1&WT_TYPE=Data%20Sheets&WT_VENDOR=FREESCALE&WT_FILE_FORMAT=pdf&WT_ASSET=Documentation
footprint 987-02_N (Thin QFP, 112-Leads, Body 20 x 20mm, Pitch 0.65mm, IPC Medium Density)
footprint 987-02_L (Thin QFP, 112-Leads, Body 20 x 20mm, Pitch 0.65mm, IPC High Density)
footprint 987-02_M (Thin QFP, 112-Leads, Body 20 x 20mm, Pitch 0.65mm, IPC Low Density)
part A pins: 1 TCLK/PSTCLK/CLKOUT, 2 TMS/~{BKPT} (in), 3 ~{RCON}/~{EZPCS} (in), 4 TDI/DSI (in), 5 TDO/DSO (out), 6 ~{TRST}/DSCLK (in), 7 ALLPST (out), 8 DTIN0/DTOUT0/PWM0/PTC0, 9 DTIN1/DTOUT1/PWM2/PTC1, 10 ~{IRQ8}/PGP0 (in), 11 ~{IRQ9}/PGP1 (in), 12 DDATA3/PDD7 (out), 13 DDATA2/PDD6 (out), 16 DDATA1/PDD5 (out), 17 DDATA0/PDD4 (out), 18 JTAG_EN (in), 19 ~{IRQ6}/FEC_RXER/PNQ6 (in), 20 ~{IRQ5}/FEC_RXD1/PNQ5 (in), 21 DTIN2/DTOUT2/PWM4/PTC2, 22 DTIN3/DTOUT3/PWM6/PTC3, 23 ~{URTS1}/SYNCB/UTXD2/PUB2 (out), 24 ~{UCTS1}/SYNCA/URXD2/PUB3 (in), 25 ~{URTS0}/CANTX/FEC_RXDV/PUA2 (out), 26 ~{UCTS0}/CANRX/FEC_RXCLK/PUA3 (in), 27 SYNCB/CANRX/FEC_MDC/PAS2 (in), 28 SYNCA/CANTX/FEC_MDIO/PAS3 (in), 29 ~{IRQ10}/PGP2 (in), 30 URXD0/FEC_RXD0/PUA1 (in), 31 UTXD0/FEC_CRS/PUA0 (out), 32 URXD1/FEC_TXD0/PUB1 (in), 33 UTXD1/FEC_COL/PUB0 (out), 34 QSPI_DIN/EZPD/CANRX/URXD1/PQS1 (in), 35 QSPI_DOUT/EZPQ/CANTX/UTXD1/PQS0 (out), 36 QSPI_CLK/EZPCK/SCL/URTS1/PQS2 (out), 37 QSPI_CS0/SDA/UCTS1/PQS3 (out), 38 QSPI_CS1/FEC_TXEN/PQS4 (out), 39 QSPI_CS2/FEC_TXCLK/PQS5 (out), 40 QSPI_CS3/SYNCA/SYNCB/PQS6 (out), 41 ~{IRQ4}/PNQ4 (in), 50 TEST (in), 51 TXLED/PLD6 (out), 52 RXLED/PLD5 (out), 53 ~{IRQ3}/FEC_RXD2/PNQ3 (in), 54 ~{IRQ2}FEC_RXD3/PNQ2 (in), 55 ~{IRQ1}SYNCA/PWM1/PNQ1 (in), 56 ~{IRQ7}/PNQ7 (in), 57 ~{IRQ11}/PGP3 (in), 58 COLLED/PLD4 (out), 59 DUPLED/PLD3 (out), 60 ~{URTS2}/PUC2 (out), 61 ~{UCTS2}/PUC3 (in), 62 URXD2/PUC1 (in), 63 UTXD2/PUC0 (out), 70 PHY_TXP (out), 71 PHY_TXN (out), 73 PHY_RXP (in), 74 PHY_RXN (in), 77 PST0/PDD0 (out), 78 PST1/PDD1 (out), 79 PST2/PDD2 (out), 80 PST3/PDD3 (out), 81 SPDLED/PLD2 (out), 83 LNKLEDPLD1 (out), 84 ACTLED/PLD0 (out), 85 AN4/PAN4 (in), 86 AN5/PAN5 (in), 87 AN6/PAN6 (in), 88 AN7/PAN7 (in), 89 AN3/PAN3 (in), 90 AN2/PAN2 (in), 91 AN1/PAN1 (in), 92 AN0/PAN0 (in), 97 ~{IRQ12}/PGP4 (in), 98 ~{IRQ13}/PGP5 (in), 99 PWM1/PTD0 (out), 100 PWM3/PTD1 (out), 103 PWM5/PTD2 (out), 104 PWM7/PTD3 (out), 105 ~{IRQ14}/PGP6 (in), 106 ~{IRQ15}/PGP7 (in), 107 GPT3/FEC_TXD3/PWM7/PTA3 (io), 108 GPT2/FEC_TXD2/PWM5/PTA2 (io), 109 GPT1/FEC_TXD1/PWM3/PTA1 (io), 110 GPT0/FEC_TXER/PWM1/PTA0 (io), 111 SCL/CANTX/UTXD2/PAS0 (io), 112 SDA/CANRX/URXD2/PAS1 (io)
part B pins: 44 ~{RSTI} (in), 46 ~{RSTO} (out), 48 EXTAL (in), 49 XTAL (out), 94 VRH (power), 95 VRL (power)
part C pins: 14 VDDX (power), 15 VSSX (power), 42 VSSX (power), 43 VDDX (power), 45 VDDPLL (power), 47 VSSPLL (power), 64 VSS (power), 65 VDD (power), 66 PHY_RBIAS (power), 67 PHY_VSSA (power), 68 PHY_VDDA (power), 69 PHY_VDDTX (power), 72 PHY_VSSTX (power), 75 PHY_VDDRX (power), 76 PHY_VSSRX (power), 82 VDDR (power), 93 VDDA (power), 96 VSSA (power), 101 VSS (power), 102 VDD (power)

## MCF52231CAF60
designator U?
MCF52231 ColdFire V2 Microcontroller, FlexCAN, 32-Bit, 128KB Flash, 32KB SRAM, 60MHz, -40°C to 85°C, 80-Pin LQFP; DatasheetVersion: rev10, Mar-2011; PackageVersion: 21/09/1995; PackageReference: 917A-02; PackageDescription: 80-Pin Thin Quad Flat Pack 0.65 mm Pitch; ComponentLink1Description: Manufacturer URL; ComponentLink1URL: http://www.freescale.com/; ComponentLink2Description: Datasheet; ComponentLink2URL: http://cache.freescale.com/files/32bit/doc/data_sheet/MCF52235DS.pdf?fpsp=1&WT_TYPE=Data%20Sheets&WT_VENDOR=FREESCALE&WT_FILE_FORMAT=pdf&WT_ASSET=Documentation
footprint 917A-02_N (Thin QFP, 80-Leads, Body 14 x 14mm, Pitch 0.65mm, IPC Medium Density)
footprint 917A-02_L (Thin QFP, 80-Leads, Body 14 x 14mm, Pitch 0.65mm, IPC High Density)
footprint 917A-02_M (Thin QFP, 80-Leads, Body 14 x 14mm, Pitch 0.65mm, IPC Low Density)
part A pins: 1 TCLK/PSTCLK/CLKOUT, 2 TMS/~{BKPT} (in), 3 ~{RCON}/~{EZPCS} (in), 4 TDI/DSI (in), 5 TDO/DSO (out), 6 ~{TRST}/DSCLK (in), 7 ALLPST (out), 8 DTIN0/DTOUT0/PWM0/PTC0, 9 DTIN1/DTOUT1/PWM2/PTC1, 12 JTAG_EN (in), 13 DTIN2/DTOUT2/PWM4/PTC2, 14 DTIN3/DTOUT3/PWM6/PTC3, 15 ~{URTS1}/SYNCB/UTXD2/PUB2 (out), 16 ~{UCTS1}/SYNCA/URXD2/PUB3 (in), 17 ~{URTS0}/CANTX/FEC_RXDV/PUA2 (out), 18 ~{UCTS0}/CANRX/FEC_RXCLK/PUA3 (in), 19 SYNCB/CANRX/FEC_MDC/PAS2 (in), 20 SYNCA/CANTX/FEC_MDIO/PAS3 (in), 21 URXD0/FEC_RXD0/PUA1 (in), 22 UTXD0/FEC_CRS/PUA0 (out), 23 URXD1/FEC_TXD0/PUB1 (in), 24 UTXD1/FEC_COL/PUB0 (out), 25 QSPI_DIN/EZPD/CANRX/URXD1/PQS1 (in), 26 QSPI_DOUT/EZPQ/CANTX/UTXD1/PQS0 (out), 27 QSPI_CLK/EZPCK/SCL/URTS1/PQS2 (out), 28 QSPI_CS0/SDA/UCTS1/PQS3 (out), 29 ~{IRQ4}/PNQ4 (in), 38 TEST (in), 39 ~{IRQ1}SYNCA/PWM1/PNQ1 (in), 40 ~{IRQ7}/PNQ7 (in), 41 ~{IRQ11}/PGP3 (in), 42 COLLED/PLD4 (out), 43 DUPLED/PLD3 (out), 50 PHY_TXP (out), 51 PHY_TXN (out), 53 PHY_RXP (in), 54 PHY_RXN (in), 57 SPDLED/PLD2 (out), 59 LNKLEDPLD1 (out), 60 ACTLED/PLD0 (out), 61 AN4/PAN4 (in), 62 AN5/PAN5 (in), 63 AN6/PAN6 (in), 64 AN7/PAN7 (in), 65 AN3/PAN3 (in), 66 AN2/PAN2 (in), 67 AN1/PAN1 (in), 68 AN0/PAN0 (in), 75 GPT3/FEC_TXD3/PWM7/PTA3 (io), 76 GPT2/FEC_TXD2/PWM5/PTA2 (io), 77 GPT1/FEC_TXD1/PWM3/PTA1 (io), 78 GPT0/FEC_TXER/PWM1/PTA0 (io), 79 SCL/CANTX/UTXD2/PAS0 (io), 80 SDA/CANRX/URXD2/PAS1 (io)
part B pins: 32 ~{RSTI} (in), 34 ~{RSTO} (out), 36 EXTAL (in), 37 XTAL (out), 70 VRH (power), 71 VRL (power)
part C pins: 10 VDDX (power), 11 VSSX (power), 30 VSSX (power), 31 VDDX (power), 33 VDDPLL (power), 35 VSSPLL (power), 44 VSS (power), 45 VDD (power), 46 PHY_RBIAS (power), 47 PHY_VSSA (power), 48 PHY_VDDA (power), 49 PHY_VDDTX (power), 52 PHY_VSSTX (power), 55 PHY_VDDRX (power), 56 PHY_VSSRX (power), 58 VDDR (power), 69 VDDA (power), 72 VSSA (power), 73 VSS (power), 74 VDD (power)

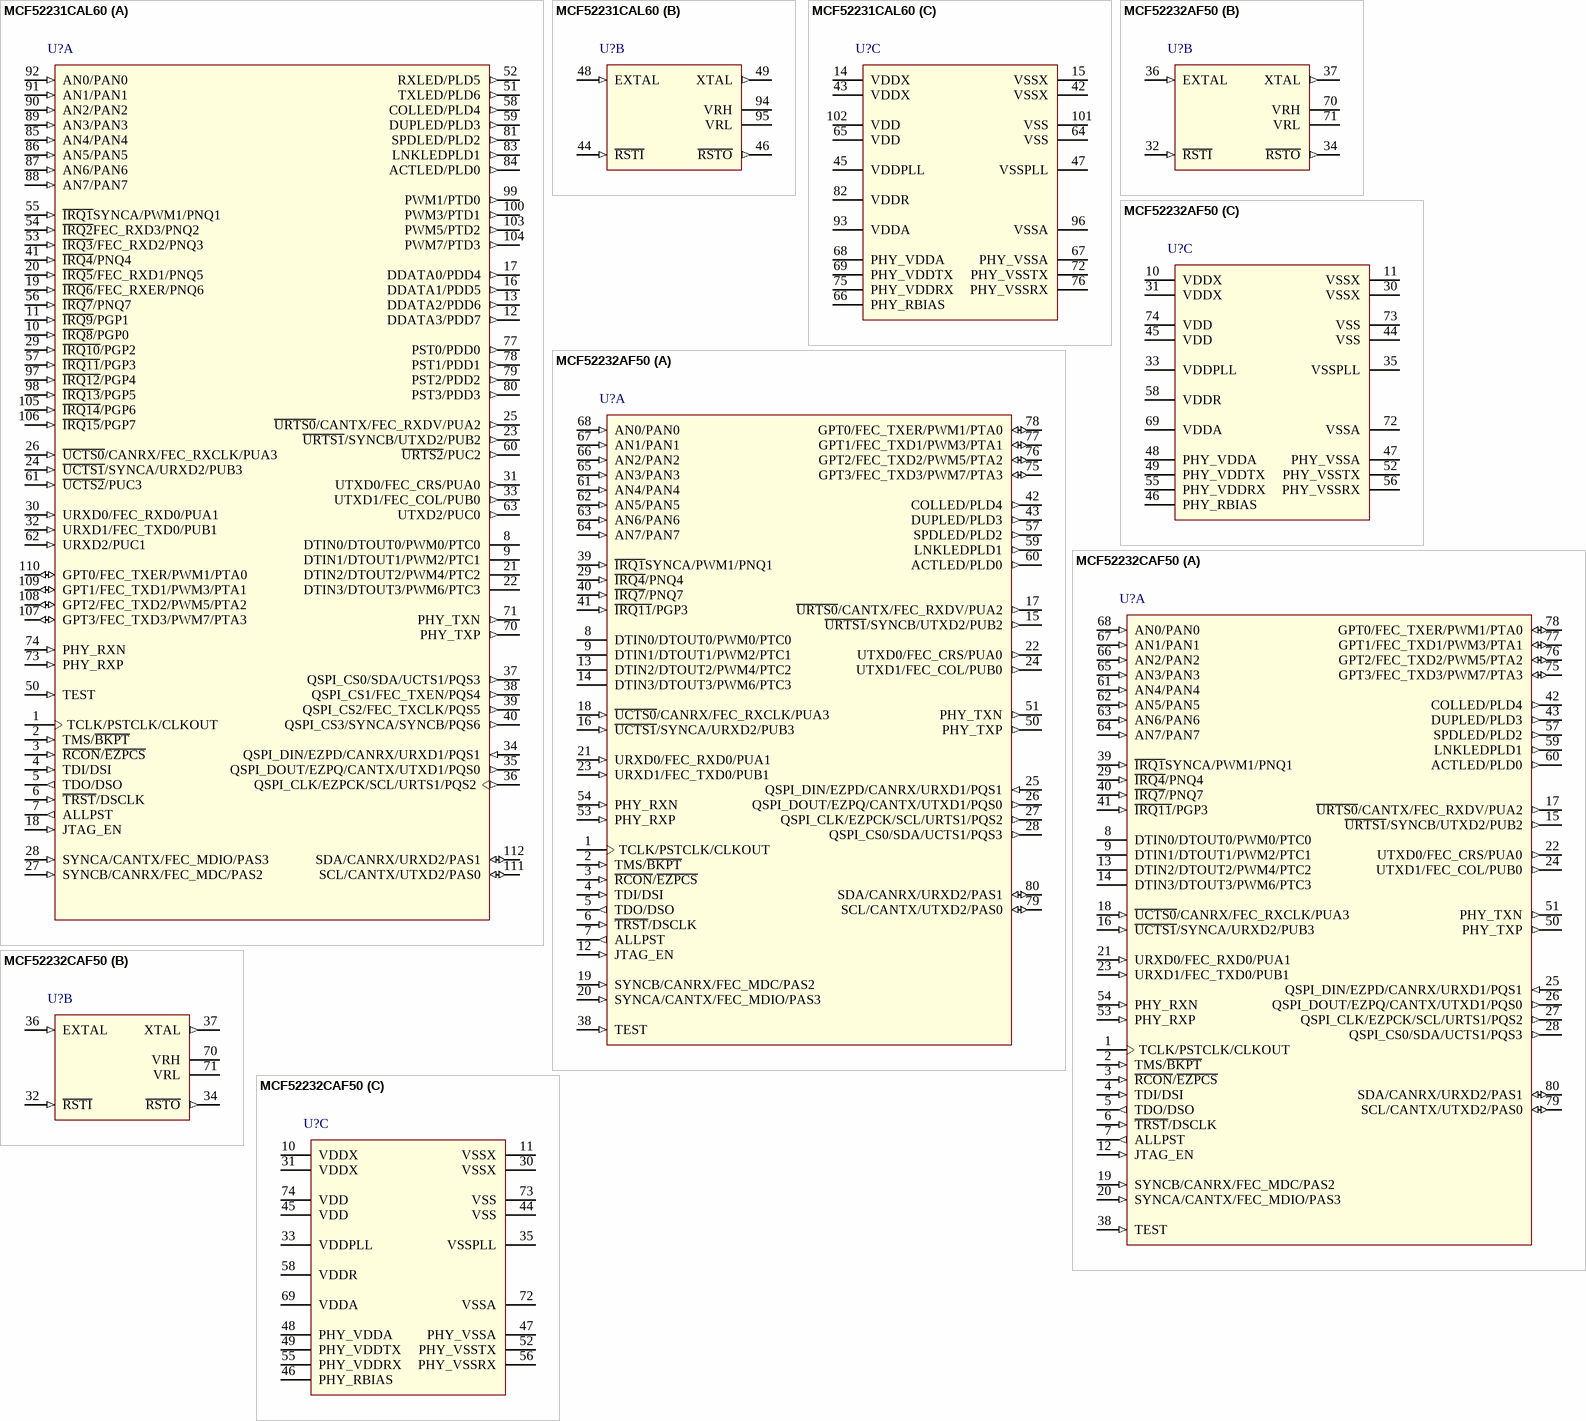
[diagram p22: symbols MCF52231CAL60 to MCF52232CAF50]

## MCF52231CAL60
designator U?
MCF52231 ColdFire V2 Microcontroller, FlexCAN, 32-Bit, 128KB Flash, 32KB SRAM, 60MHz, -40°C to 85°C, 112-Pin LQFP; DatasheetVersion: rev10, Mar-2011; PackageVersion: revE, May-2005; PackageReference: 987-02; PackageDescription: 112-Pin Low Profile Quad Flat Pack 0.65 mm Pitch (987-02); Code_JEDEC: MS-026; ComponentLink1Description: Manufacturer URL; ComponentLink1URL: http://www.freescale.com/; ComponentLink2Description: Datasheet; ComponentLink2URL: http://cache.freescale.com/files/32bit/doc/data_sheet/MCF52235DS.pdf?fpsp=1&WT_TYPE=Data%20Sheets&WT_VENDOR=FREESCALE&WT_FILE_FORMAT=pdf&WT_ASSET=Documentation
footprint 987-02_N (Thin QFP, 112-Leads, Body 20 x 20mm, Pitch 0.65mm, IPC Medium Density)
footprint 987-02_L (Thin QFP, 112-Leads, Body 20 x 20mm, Pitch 0.65mm, IPC High Density)
footprint 987-02_M (Thin QFP, 112-Leads, Body 20 x 20mm, Pitch 0.65mm, IPC Low Density)
part A pins: 1 TCLK/PSTCLK/CLKOUT, 2 TMS/~{BKPT} (in), 3 ~{RCON}/~{EZPCS} (in), 4 TDI/DSI (in), 5 TDO/DSO (out), 6 ~{TRST}/DSCLK (in), 7 ALLPST (out), 8 DTIN0/DTOUT0/PWM0/PTC0, 9 DTIN1/DTOUT1/PWM2/PTC1, 10 ~{IRQ8}/PGP0 (in), 11 ~{IRQ9}/PGP1 (in), 12 DDATA3/PDD7 (out), 13 DDATA2/PDD6 (out), 16 DDATA1/PDD5 (out), 17 DDATA0/PDD4 (out), 18 JTAG_EN (in), 19 ~{IRQ6}/FEC_RXER/PNQ6 (in), 20 ~{IRQ5}/FEC_RXD1/PNQ5 (in), 21 DTIN2/DTOUT2/PWM4/PTC2, 22 DTIN3/DTOUT3/PWM6/PTC3, 23 ~{URTS1}/SYNCB/UTXD2/PUB2 (out), 24 ~{UCTS1}/SYNCA/URXD2/PUB3 (in), 25 ~{URTS0}/CANTX/FEC_RXDV/PUA2 (out), 26 ~{UCTS0}/CANRX/FEC_RXCLK/PUA3 (in), 27 SYNCB/CANRX/FEC_MDC/PAS2 (in), 28 SYNCA/CANTX/FEC_MDIO/PAS3 (in), 29 ~{IRQ10}/PGP2 (in), 30 URXD0/FEC_RXD0/PUA1 (in), 31 UTXD0/FEC_CRS/PUA0 (out), 32 URXD1/FEC_TXD0/PUB1 (in), 33 UTXD1/FEC_COL/PUB0 (out), 34 QSPI_DIN/EZPD/CANRX/URXD1/PQS1 (in), 35 QSPI_DOUT/EZPQ/CANTX/UTXD1/PQS0 (out), 36 QSPI_CLK/EZPCK/SCL/URTS1/PQS2 (out), 37 QSPI_CS0/SDA/UCTS1/PQS3 (out), 38 QSPI_CS1/FEC_TXEN/PQS4 (out), 39 QSPI_CS2/FEC_TXCLK/PQS5 (out), 40 QSPI_CS3/SYNCA/SYNCB/PQS6 (out), 41 ~{IRQ4}/PNQ4 (in), 50 TEST (in), 51 TXLED/PLD6 (out), 52 RXLED/PLD5 (out), 53 ~{IRQ3}/FEC_RXD2/PNQ3 (in), 54 ~{IRQ2}FEC_RXD3/PNQ2 (in), 55 ~{IRQ1}SYNCA/PWM1/PNQ1 (in), 56 ~{IRQ7}/PNQ7 (in), 57 ~{IRQ11}/PGP3 (in), 58 COLLED/PLD4 (out), 59 DUPLED/PLD3 (out), 60 ~{URTS2}/PUC2 (out), 61 ~{UCTS2}/PUC3 (in), 62 URXD2/PUC1 (in), 63 UTXD2/PUC0 (out), 70 PHY_TXP (out), 71 PHY_TXN (out), 73 PHY_RXP (in), 74 PHY_RXN (in), 77 PST0/PDD0 (out), 78 PST1/PDD1 (out), 79 PST2/PDD2 (out), 80 PST3/PDD3 (out), 81 SPDLED/PLD2 (out), 83 LNKLEDPLD1 (out), 84 ACTLED/PLD0 (out), 85 AN4/PAN4 (in), 86 AN5/PAN5 (in), 87 AN6/PAN6 (in), 88 AN7/PAN7 (in), 89 AN3/PAN3 (in), 90 AN2/PAN2 (in), 91 AN1/PAN1 (in), 92 AN0/PAN0 (in), 97 ~{IRQ12}/PGP4 (in), 98 ~{IRQ13}/PGP5 (in), 99 PWM1/PTD0 (out), 100 PWM3/PTD1 (out), 103 PWM5/PTD2 (out), 104 PWM7/PTD3 (out), 105 ~{IRQ14}/PGP6 (in), 106 ~{IRQ15}/PGP7 (in), 107 GPT3/FEC_TXD3/PWM7/PTA3 (io), 108 GPT2/FEC_TXD2/PWM5/PTA2 (io), 109 GPT1/FEC_TXD1/PWM3/PTA1 (io), 110 GPT0/FEC_TXER/PWM1/PTA0 (io), 111 SCL/CANTX/UTXD2/PAS0 (io), 112 SDA/CANRX/URXD2/PAS1 (io)
part B pins: 44 ~{RSTI} (in), 46 ~{RSTO} (out), 48 EXTAL (in), 49 XTAL (out), 94 VRH (power), 95 VRL (power)
part C pins: 14 VDDX (power), 15 VSSX (power), 42 VSSX (power), 43 VDDX (power), 45 VDDPLL (power), 47 VSSPLL (power), 64 VSS (power), 65 VDD (power), 66 PHY_RBIAS (power), 67 PHY_VSSA (power), 68 PHY_VDDA (power), 69 PHY_VDDTX (power), 72 PHY_VSSTX (power), 75 PHY_VDDRX (power), 76 PHY_VSSRX (power), 82 VDDR (power), 93 VDDA (power), 96 VSSA (power), 101 VSS (power), 102 VDD (power)

## MCF52232AF50
designator U?
MCF52232 ColdFire V2 Microcontroller, 32-Bit, 128KB Flash, 32KB SRAM, 50MHz, 0°C to 70°C, 80-Pin LQFP; DatasheetVersion: rev10, Mar-2011; PackageVersion: 21/09/1995; PackageReference: 917A-02; PackageDescription: 80-Pin Thin Quad Flat Pack 0.65 mm Pitch; ComponentLink1Description: Manufacturer URL; ComponentLink1URL: http://www.freescale.com/; ComponentLink2Description: Datasheet; ComponentLink2URL: http://cache.freescale.com/files/32bit/doc/data_sheet/MCF52235DS.pdf?fpsp=1&WT_TYPE=Data%20Sheets&WT_VENDOR=FREESCALE&WT_FILE_FORMAT=pdf&WT_ASSET=Documentation
footprint 917A-02_N (Thin QFP, 80-Leads, Body 14 x 14mm, Pitch 0.65mm, IPC Medium Density)
footprint 917A-02_L (Thin QFP, 80-Leads, Body 14 x 14mm, Pitch 0.65mm, IPC High Density)
footprint 917A-02_M (Thin QFP, 80-Leads, Body 14 x 14mm, Pitch 0.65mm, IPC Low Density)
part A pins: 1 TCLK/PSTCLK/CLKOUT, 2 TMS/~{BKPT} (in), 3 ~{RCON}/~{EZPCS} (in), 4 TDI/DSI (in), 5 TDO/DSO (out), 6 ~{TRST}/DSCLK (in), 7 ALLPST (out), 8 DTIN0/DTOUT0/PWM0/PTC0, 9 DTIN1/DTOUT1/PWM2/PTC1, 12 JTAG_EN (in), 13 DTIN2/DTOUT2/PWM4/PTC2, 14 DTIN3/DTOUT3/PWM6/PTC3, 15 ~{URTS1}/SYNCB/UTXD2/PUB2 (out), 16 ~{UCTS1}/SYNCA/URXD2/PUB3 (in), 17 ~{URTS0}/CANTX/FEC_RXDV/PUA2 (out), 18 ~{UCTS0}/CANRX/FEC_RXCLK/PUA3 (in), 19 SYNCB/CANRX/FEC_MDC/PAS2 (in), 20 SYNCA/CANTX/FEC_MDIO/PAS3 (in), 21 URXD0/FEC_RXD0/PUA1 (in), 22 UTXD0/FEC_CRS/PUA0 (out), 23 URXD1/FEC_TXD0/PUB1 (in), 24 UTXD1/FEC_COL/PUB0 (out), 25 QSPI_DIN/EZPD/CANRX/URXD1/PQS1 (in), 26 QSPI_DOUT/EZPQ/CANTX/UTXD1/PQS0 (out), 27 QSPI_CLK/EZPCK/SCL/URTS1/PQS2 (out), 28 QSPI_CS0/SDA/UCTS1/PQS3 (out), 29 ~{IRQ4}/PNQ4 (in), 38 TEST (in), 39 ~{IRQ1}SYNCA/PWM1/PNQ1 (in), 40 ~{IRQ7}/PNQ7 (in), 41 ~{IRQ11}/PGP3 (in), 42 COLLED/PLD4 (out), 43 DUPLED/PLD3 (out), 50 PHY_TXP (out), 51 PHY_TXN (out), 53 PHY_RXP (in), 54 PHY_RXN (in), 57 SPDLED/PLD2 (out), 59 LNKLEDPLD1 (out), 60 ACTLED/PLD0 (out), 61 AN4/PAN4 (in), 62 AN5/PAN5 (in), 63 AN6/PAN6 (in), 64 AN7/PAN7 (in), 65 AN3/PAN3 (in), 66 AN2/PAN2 (in), 67 AN1/PAN1 (in), 68 AN0/PAN0 (in), 75 GPT3/FEC_TXD3/PWM7/PTA3 (io), 76 GPT2/FEC_TXD2/PWM5/PTA2 (io), 77 GPT1/FEC_TXD1/PWM3/PTA1 (io), 78 GPT0/FEC_TXER/PWM1/PTA0 (io), 79 SCL/CANTX/UTXD2/PAS0 (io), 80 SDA/CANRX/URXD2/PAS1 (io)
part B pins: 32 ~{RSTI} (in), 34 ~{RSTO} (out), 36 EXTAL (in), 37 XTAL (out), 70 VRH (power), 71 VRL (power)
part C pins: 10 VDDX (power), 11 VSSX (power), 30 VSSX (power), 31 VDDX (power), 33 VDDPLL (power), 35 VSSPLL (power), 44 VSS (power), 45 VDD (power), 46 PHY_RBIAS (power), 47 PHY_VSSA (power), 48 PHY_VDDA (power), 49 PHY_VDDTX (power), 52 PHY_VSSTX (power), 55 PHY_VDDRX (power), 56 PHY_VSSRX (power), 58 VDDR (power), 69 VDDA (power), 72 VSSA (power), 73 VSS (power), 74 VDD (power)

## MCF52232CAF50
designator U?
MCF52232 ColdFire V2 Microcontroller, 32-Bit, 128KB Flash, 32KB SRAM, 50MHz, -40°C to 85°C, 80-Pin LQFP; DatasheetVersion: rev10, Mar-2011; PackageVersion: 21/09/1995; PackageReference: 917A-02; PackageDescription: 80-Pin Thin Quad Flat Pack 0.65 mm Pitch; ComponentLink1Description: Manufacturer URL; ComponentLink1URL: http://www.freescale.com/; ComponentLink2Description: Datasheet; ComponentLink2URL: http://cache.freescale.com/files/32bit/doc/data_sheet/MCF52235DS.pdf?fpsp=1&WT_TYPE=Data%20Sheets&WT_VENDOR=FREESCALE&WT_FILE_FORMAT=pdf&WT_ASSET=Documentation
footprint 917A-02_N (Thin QFP, 80-Leads, Body 14 x 14mm, Pitch 0.65mm, IPC Medium Density)
footprint 917A-02_L (Thin QFP, 80-Leads, Body 14 x 14mm, Pitch 0.65mm, IPC High Density)
footprint 917A-02_M (Thin QFP, 80-Leads, Body 14 x 14mm, Pitch 0.65mm, IPC Low Density)
part A pins: 1 TCLK/PSTCLK/CLKOUT, 2 TMS/~{BKPT} (in), 3 ~{RCON}/~{EZPCS} (in), 4 TDI/DSI (in), 5 TDO/DSO (out), 6 ~{TRST}/DSCLK (in), 7 ALLPST (out), 8 DTIN0/DTOUT0/PWM0/PTC0, 9 DTIN1/DTOUT1/PWM2/PTC1, 12 JTAG_EN (in), 13 DTIN2/DTOUT2/PWM4/PTC2, 14 DTIN3/DTOUT3/PWM6/PTC3, 15 ~{URTS1}/SYNCB/UTXD2/PUB2 (out), 16 ~{UCTS1}/SYNCA/URXD2/PUB3 (in), 17 ~{URTS0}/CANTX/FEC_RXDV/PUA2 (out), 18 ~{UCTS0}/CANRX/FEC_RXCLK/PUA3 (in), 19 SYNCB/CANRX/FEC_MDC/PAS2 (in), 20 SYNCA/CANTX/FEC_MDIO/PAS3 (in), 21 URXD0/FEC_RXD0/PUA1 (in), 22 UTXD0/FEC_CRS/PUA0 (out), 23 URXD1/FEC_TXD0/PUB1 (in), 24 UTXD1/FEC_COL/PUB0 (out), 25 QSPI_DIN/EZPD/CANRX/URXD1/PQS1 (in), 26 QSPI_DOUT/EZPQ/CANTX/UTXD1/PQS0 (out), 27 QSPI_CLK/EZPCK/SCL/URTS1/PQS2 (out), 28 QSPI_CS0/SDA/UCTS1/PQS3 (out), 29 ~{IRQ4}/PNQ4 (in), 38 TEST (in), 39 ~{IRQ1}SYNCA/PWM1/PNQ1 (in), 40 ~{IRQ7}/PNQ7 (in), 41 ~{IRQ11}/PGP3 (in), 42 COLLED/PLD4 (out), 43 DUPLED/PLD3 (out), 50 PHY_TXP (out), 51 PHY_TXN (out), 53 PHY_RXP (in), 54 PHY_RXN (in), 57 SPDLED/PLD2 (out), 59 LNKLEDPLD1 (out), 60 ACTLED/PLD0 (out), 61 AN4/PAN4 (in), 62 AN5/PAN5 (in), 63 AN6/PAN6 (in), 64 AN7/PAN7 (in), 65 AN3/PAN3 (in), 66 AN2/PAN2 (in), 67 AN1/PAN1 (in), 68 AN0/PAN0 (in), 75 GPT3/FEC_TXD3/PWM7/PTA3 (io), 76 GPT2/FEC_TXD2/PWM5/PTA2 (io), 77 GPT1/FEC_TXD1/PWM3/PTA1 (io), 78 GPT0/FEC_TXER/PWM1/PTA0 (io), 79 SCL/CANTX/UTXD2/PAS0 (io), 80 SDA/CANRX/URXD2/PAS1 (io)
part B pins: 32 ~{RSTI} (in), 34 ~{RSTO} (out), 36 EXTAL (in), 37 XTAL (out), 70 VRH (power), 71 VRL (power)
part C pins: 10 VDDX (power), 11 VSSX (power), 30 VSSX (power), 31 VDDX (power), 33 VDDPLL (power), 35 VSSPLL (power), 44 VSS (power), 45 VDD (power), 46 PHY_RBIAS (power), 47 PHY_VSSA (power), 48 PHY_VDDA (power), 49 PHY_VDDTX (power), 52 PHY_VSSTX (power), 55 PHY_VDDRX (power), 56 PHY_VSSRX (power), 58 VDDR (power), 69 VDDA (power), 72 VSSA (power), 73 VSS (power), 74 VDD (power)

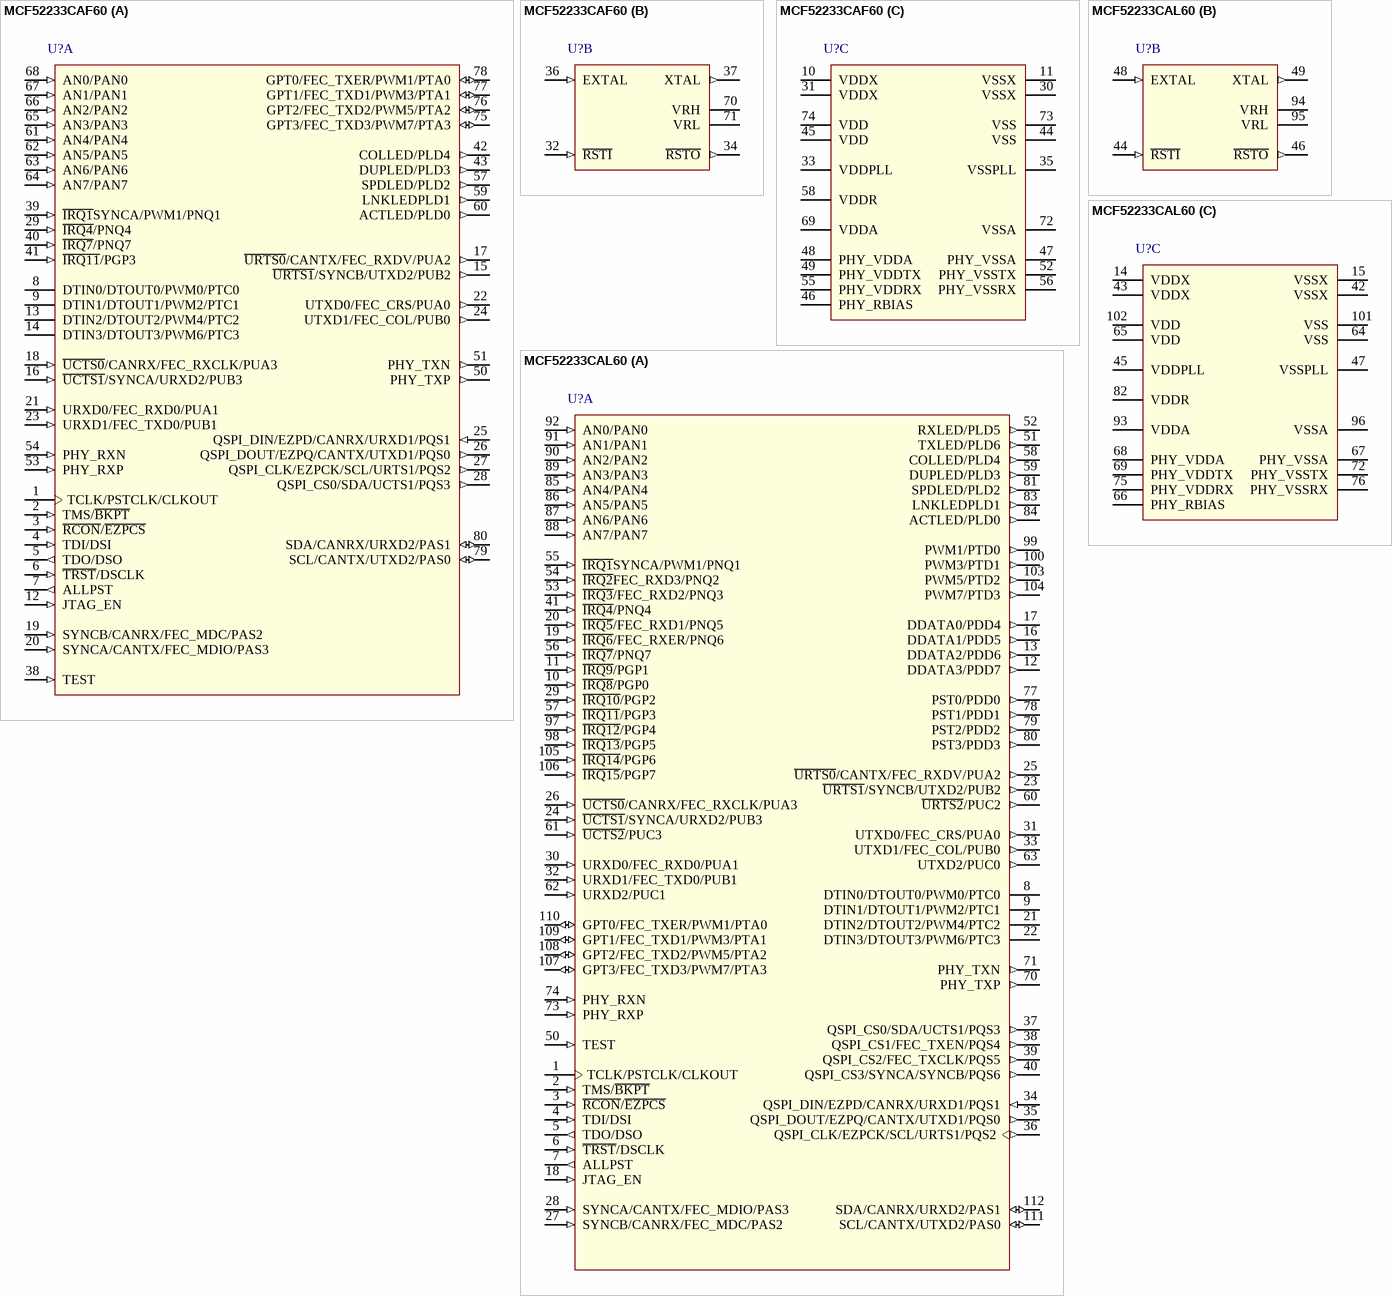
[diagram p23: symbols MCF52233CAF60 to MCF52233CAL60]